# Altium schematic symbol library Mark_Library.SchLib: 467 symbols (part 3 of 4)
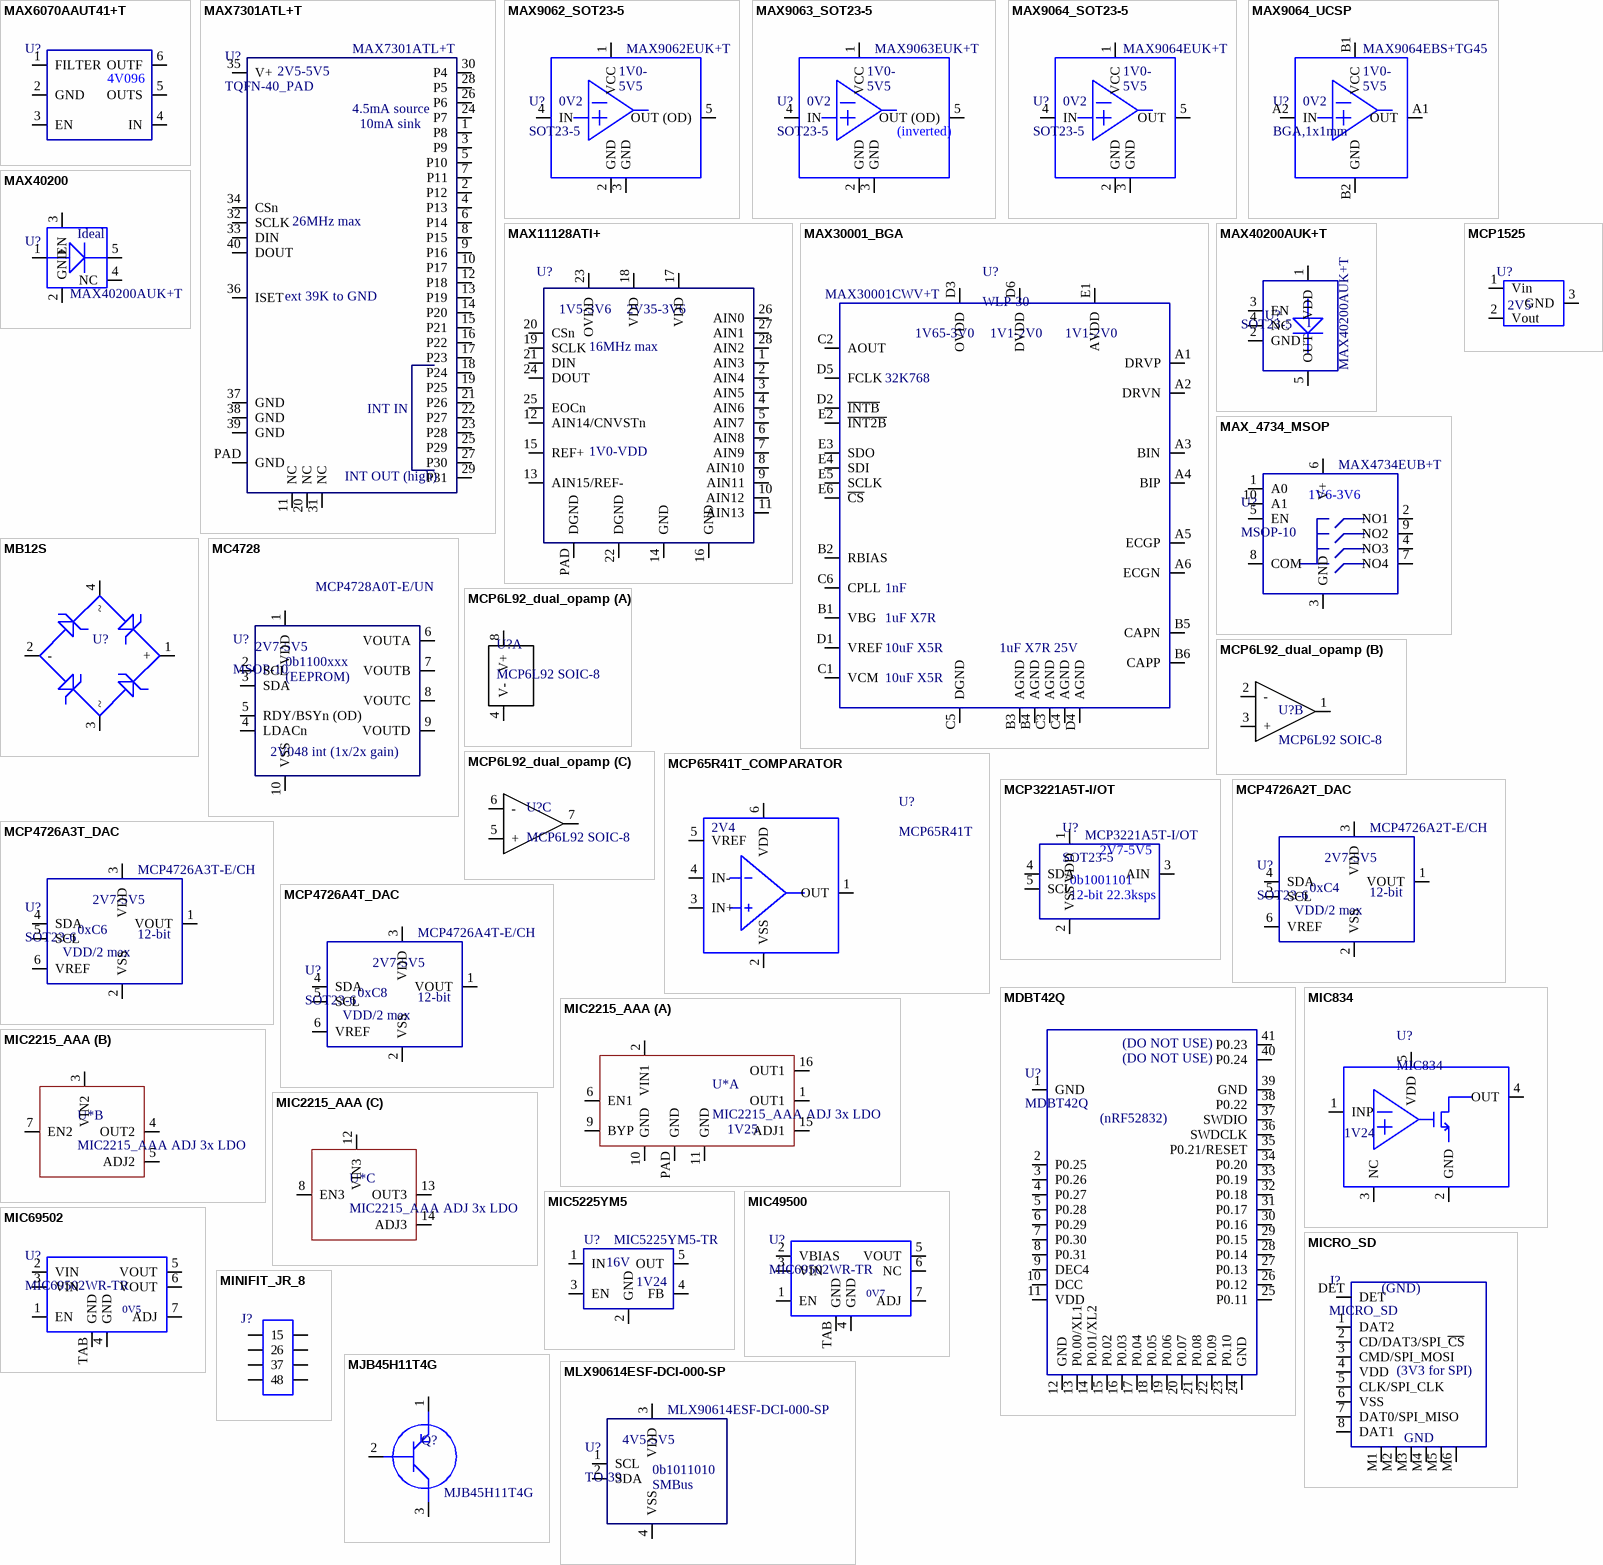
[diagram p21: symbols MAX6070AAUT41+T to MLX90614ESF-DCI-000-SP]

## MLX90614ESF-DCI-000-SP
designator U?, comment TO-39  MfgPartNumber: MLX90614ESF-DCI-000-SP
Manufacturer: Melexis; DigikeyPartNumber: MLX90614ESF-DCI-000-SP
footprint TO-39_20mm (4-pin TH 9mm dia x 20mm tall)
pins: 1 SCL, 2 SDA, 3 VDD, 4 VSS
text: 4V5-5V5; 0b1011010; SMBus

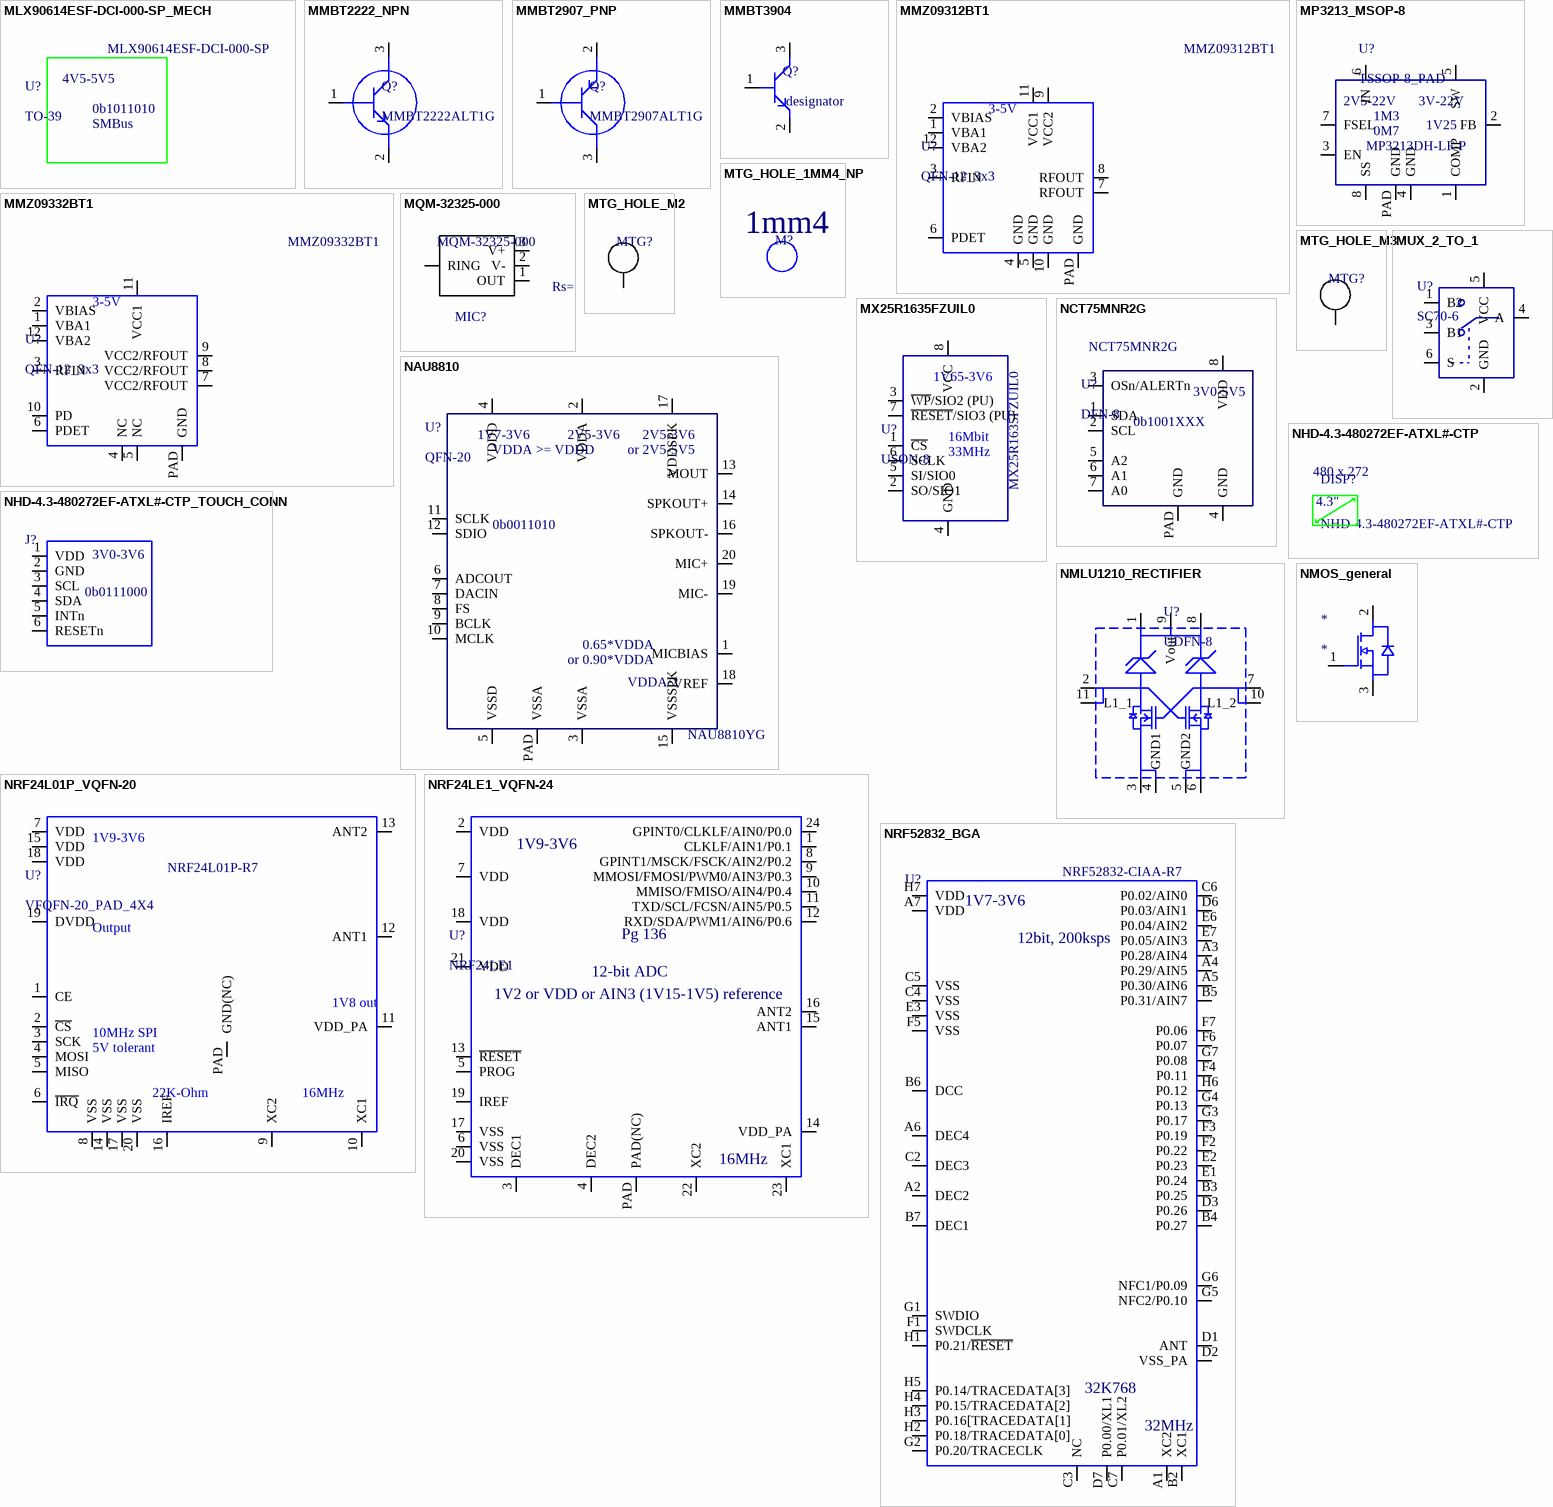
[diagram p13: symbols MLX90614ESF-DCI-000-SP_MECH to NRF52832_BGA]

## MLX90614ESF-DCI-000-SP_MECH
designator U?, comment TO-39  MfgPartNumber: MLX90614ESF-DCI-000-SP  (mechanical)
Manufacturer: Melexis; DigikeyPartNumber: MLX90614ESF-DCI-000-SP
footprint TO-39_20mm (4-pin TH 9mm dia x 20mm tall)
text: 4V5-5V5; 0b1011010; SMBus

## MMBT2222_NPN
designator Q?, comment MMBT2222ALT1G
Bipolar (BJT) Transistor NPN 40V 600mA 300MHz 225mW Surface Mount SOT-23; Manufacturer: ON Semiconductor; MfgPartNumber: MMBT2222ALT1G; DigikeyPartNumber: MMBT2222ALT1GOSCT-ND
footprint SOT23-3
pins: 1, 2, 3

## MMBT2907_PNP
designator Q?, comment MMBT2907ALT1G
Bipolar (BJT) Transistor NPN 40V 600mA 300MHz 225mW Surface Mount SOT-23; Manufacturer: ON Semiconductor; MfgPartNumber: MMBT2907ALT1G; DigikeyPartNumber: MMBT2907ALT1GOSCT-ND
footprint SOT23-3
pins: 1, 2, 3

## MMBT3904
designator Q?, comment .designator
TRANS NPN 40V 0.2A SOT23; Manufacturer: Micro Commercial Co; MfgPartNumber: MMBT3904-TP; DigikeyPartNumber: MMBT3904TPMSCT-ND
footprint SOT23-3
pins: 1, 2, 3

## MMZ09312BT1
designator U?  MfgPartNumber: MMZ09312BT1
IC RF AMP CDMA 400MHZ-1GHZ 12QFN; Manufacturer: NXP; DigikeyPartNumber: MMZ09312BT1CT-ND
footprint QFN-12_3x3 (3x3x0.9mm for MMZ09312B)
pins: 1 VBA1, 2 VBIAS, 3 RFIN, 4 GND, 5 GND, 6 PDET, 7 RFOUT, 8 RFOUT, 9 VCC2, 10 GND, 11 VCC1, 12 VBA2, PAD GND
text: 3-5V

## MMZ09332BT1
designator U?  MfgPartNumber: MMZ09332BT1
IC RF AMP LTE 130MHZ-1GHZ 12QFN; Manufacturer: NXP; DigikeyPartNumber: MMZ09332BT1CT-ND
footprint QFN-12_3x3 (3x3x0.9mm for MMZ09312B)
pins: 1 VBA1, 2 VBIAS, 3 RFIN, 4 NC, 5 NC, 6 PDET, 7 VCC2/RFOUT, 8 VCC2/RFOUT, 9 VCC2/RFOUT, 10 PD, 11 VCC1, 12 VBA2, PAD GND
text: 3-5V

## MP3213_MSOP-8
designator U?, comment TSSOP-8_PAD  MfgPartNumber: MP3213DH-LF-P
Boost Switching Regulator IC Positive Adjustable 3V 1 Output 3.5A 8-TSSOP, 8-MSOP (0.118", 3.00mm Width) Exposed Pad; Manufacturer: Monolithic Power Systems; DigikeyPartNumber: 1589-1625-1-ND
footprint TSSOP-8_PAD (8-pin SMT with power pad)
pins: 1 COMP, 2 FB, 3 EN, 4 GND, 5 SW, 6 IN, 7 FSEL, 8 SS, PAD GND
text: 2V5-22V; 3V-22V; 1M3; 1V25; 0M7

## MQM-32325-000
designator MIC?
Microphone, SMD; Manufacturer: Knowles; MfgPartNumber: MQM-32325-000; DigikeyPartNumber: MQM-32325-000-ND
footprint MQM-32325-000 - ALT
footprint MQM-32325-000
pins: 1 OUT, 2 V-, 3 V+, RING
text: Rs=4k

## MTG_HOLE_1MM4_NP
designator M?  (value not drawn)
non-plated, 1.4mm
footprint MTG_HOLE_1MM4_NP (1.4mm hole for a screw/standoff. NON-PLATED)
text: 1mm4

## MTG_HOLE_M2
designator MTG?, comment Not A Part  (value not drawn)  (no BOM)
Hole for an M2 standoff; Manufacturer: Lookup; Height: 15mm; MfgPartNumber: Lookup; DigikeyPartNumber: Lookup; Color: White
footprint MTG_HOLE_M2 (Hole for an M2 screw/standoff)
pins: 1 MTG "M3 MTG HOLE"

## MTG_HOLE_M3
designator MTG?, comment Not A Part  (value not drawn)  (no BOM)
Hole for an M3 standoff; Manufacturer: Lookup; Height: 15mm; MfgPartNumber: Lookup; DigikeyPartNumber: Lookup; Color: White
footprint MTG_HOLE_M3 (mounting hole M3)
pins: 1 MTG "M3 MTG HOLE"

## MUX_2_TO_1
designator U?, comment SC70-6
1 Circuit IC Switch 2:1 15Ohm SC-70-6; Manufacturer: Texas Instruments; MfgPartNumber: SN74LVC1G3157DCKR; DigikeyPartNumber: 296-14909-1-ND
footprint SC70-6 (6 pin 2.3x3.2mm board area)
pins: 1 B2, 2 GND, 3 B1, 4 A, 5 VCC, 6 S

## MX25R1635FZUIL0
designator U?, comment USON-8  MfgPartNumber: MX25R1635FZUIL0
FLASH - NOR Memory IC 16Mb (2M x 8) SPI 33MHz 8-USON (2x3); Manufacturer: Macronix; DigikeyPartNumber: 1092-1204-1-ND
footprint USON-8_PAD (2x3x0.55mm SMD)
pins: 1 ~{CS}, 2 SO/SIO1, 3 ~{WP}/SIO2 (PU), 4 GND, 5 SI/SIO0, 6 SCLK, 7 ~{RESET}/SIO3 (PU), 8 VCC
text: 1V65-3V6; 16Mbit; 33MHz

## NAU8810
designator U?, comment QFN-20  MfgPartNumber: NAU8810YG
IC AUDIO CODEC MONO 20QFN; Manufacturer: Nuvoton; DigikeyPartNumber: NAU8810YG-ND
footprint QFN-20_PAD (4x4x0.8mm 20-pin QFN + bottom pad)
pins: 1 MICBIAS, 2 VDDA, 3 VSSA, 4 VDDD, 5 VSSD, 6 ADCOUT, 7 DACIN, 8 FS, 9 BCLK, 10 MCLK, 11 SCLK, 12 SDIO, 13 MOUT, 14 SPKOUT+, 15 VSSSPK, 16 SPKOUT-, 17 VDDSPK, 18 VREF, 19 MIC-, 20 MIC+, PAD VSSA
text: 1V7-3V6; 2V5-3V6; VDDA >= VDDD; or 2V5-5V5; 0b0011010; 0.65*VDDA; or 0.90*VDDA; VDDA/2

## NCT75MNR2G
designator U?, comment DFN-8  MfgPartNumber: NCT75MNR2G
Temperature Sensor Digital, Local -55°C ~ 125°C 11 b 8-DFN (2x2); Parameter 1: ON Semiconductor; DigikeyPartNumber: NCT75MNR2GOSCT-ND
pins: 1 SDA, 2 SCL, 3 OSn/ALERTn, 4 GND, 5 A2, 6 A1, 7 A0, 8 VDD, PAD GND
text: 3V0-5V5; 0b1001XXX

## NHD-4.3-480272EF-ATXL#-CTP
designator DISP?, comment MfgPartNumber: NHD-4.3-480272EF-ATXL#-CTP  (hidden comment: 54104-4033, 52271-0679)  (mechanical)
LCD 24-bit RGB 4.3" capacitive touch; Manufacturer: Newhaven; DigikeyPartNumber: NHD-4.3-480272EF-ATXL#-CTP-ND
text: 480 x 272; 4.3"

## NHD-4.3-480272EF-ATXL#-CTP_TOUCH_CONN
designator J?, comment 0.05in 5x2  (value not drawn)
6 Position FPC Connector Contacts, Bottom 0.039" (1.00mm) Surface Mount, Right Angle; MfgPartNumber: 0522710679; Manufacturer: Molex; DigikeyPartNumber: WM7955CT-ND
footprint HEADER_2x5_0.05IN (0.05 (1.27mm) 2x5 header for programming nRF52832)
pins: 1 VDD, 2 GND, 3 SCL, 4 SDA, 5 INTn, 6 RESETn
text: 3V0-3V6; 0b0111000

## NMLU1210_RECTIFIER
designator U?, comment UDFN-8
BRIDGE RECT 3.2A 20V 8UDFN; Manufacturer: ON Semiconductor; MfgPartNumber: NMLU1210TWG; DigikeyPartNumber: NMLU1210TWGOSCT-ND
footprint NMLU1210TWG (BRIDGE RECT 3.2A 20V 8UDFN)
pins: 1 Vout, 2 L1_1, 3 GND1, 4 GND1, 5 GND2, 6 GND2, 7 L1_2, 8 Vout, 9 Vout, 10 L1_2, 11 L1_1

## NMOS_general
designator *
pins: 1, 2, 3

## NRF24L01P_VQFN-20
designator U?  MfgPartNumber: NRF24L01P-R7
IC RF TXRX ISM>1GHZ 20VFQFN; Manufacturer: Nordic Semiconductor; DigikeyPartNumber: 1490-1033-1-ND
footprint VFQFN-20_PAD_4X4 (4x4x0.95mm 20-pn + pad)
pins: 1 CE, 2 ~{CS}, 3 SCK, 4 MOSI, 5 MISO, 6 ~{IRQ}, 7 VDD, 8 VSS, 9 XC2, 10 XC1, 11 VDD_PA, 12 ANT1, 13 ANT2, 14 VSS, 15 VDD, 16 IREF, 17 VSS, 18 VDD, 19 DVDD, 20 VSS, PAD GND(NC)
text: 1V9-3V6; Output; 1V8 out; 10MHz SPI; 5V tolerant; 22K-Ohm; 16MHz

## NRF24LE1_VQFN-24
designator U?, comment NRF24LE1
IC RF TxRx + MCU General ISM > 1GHZ 2.4GHz 24-VFQFN Exposed Pad; Manufacturer: Nordic Semiconductor ASA; MfgPartNumber: NRF24LE1-F16Q24-T; DigikeyPartNumber: 1490-1020-ND
footprint VQFN-24_PAD (4x4x0.9mm)
pins: 1 CLKLF/AIN1/P0.1, 2 VDD, 3 DEC1, 4 DEC2, 5 PROG, 6 VSS, 7 VDD, 8 GPINT1/MSCK/FSCK/AIN2/P0.2, 9 MMOSI/FMOSI/PWM0/AIN3/P0.3, 10 MMISO/FMISO/AIN4/P0.4, 11 TXD/SCL/FCSN/AIN5/P0.5, 12 RXD/SDA/PWM1/AIN6/P0.6, 13 ~{RESET}, 14 VDD_PA, 15 ANT1, 16 ANT2, 17 VSS, 18 VDD, 19 IREF, 20 VSS, 21 VDD, 22 XC2, 23 XC1, 24 GPINT0/CLKLF/AIN0/P0.0, PAD PAD(NC)
text: 1V9-3V6; Pg 136; 12-bit ADC; 1V2 or VDD or AIN3 (1V15-1V5) reference; 16MHz

## NRF52832_BGA
designator U?  MfgPartNumber: NRF52832-CIAA-R7  (hidden comment: *)
Bluetooth Low Energy 50-XFBGA; Manufacturer: Nordic Semiconductor ASA; DigikeyPartNumber: 1490-1066-1-ND
footprint XFBGA-50 (3x4mm for NRF52832)
pins: A1 XC2, A2 DEC2, A3 P0.28/AIN4, A4 P0.29/AIN5, A5 P0.30/AIN6, A6 DEC4, A7 VDD, B2 XC1, B3 P0.25, B4 P0.27, B5 P0.31/AIN7, B6 DCC, B7 DEC1, C2 DEC3, C3 NC, C4 VSS, C5 VSS, C6 P0.02/AIN0, C7 P0.01/XL2, D1 ANT, D2 VSS_PA, D3 P0.26, D6 P0.03/AIN1, D7 P0.00/XL1, E1 P0.24, E2 P0.23, E3 VSS, E6 P0.04/AIN2, E7 P0.05/AIN3, F1 SWDCLK, F2 P0.22, F3 P0.19, F4 P0.11, F5 VSS, F6 P0.07, F7 P0.06, G1 SWDIO, G2 P0.20/TRACECLK, G3 P0.17, G4 P0.13, G5 NFC2/P0.10, G6 NFC1/P0.09, G7 P0.08, H1 P0.21/~{RESET}, H2 P0.18/TRACEDATA[0], H3 P0.16[TRACEDATA[1], H4 P0.15/TRACEDATA[2], H5 P0.14/TRACEDATA[3], H6 P0.12, H7 VDD
text: 1V7-3V6; 12bit, 200ksps; 32K768; 32MHz

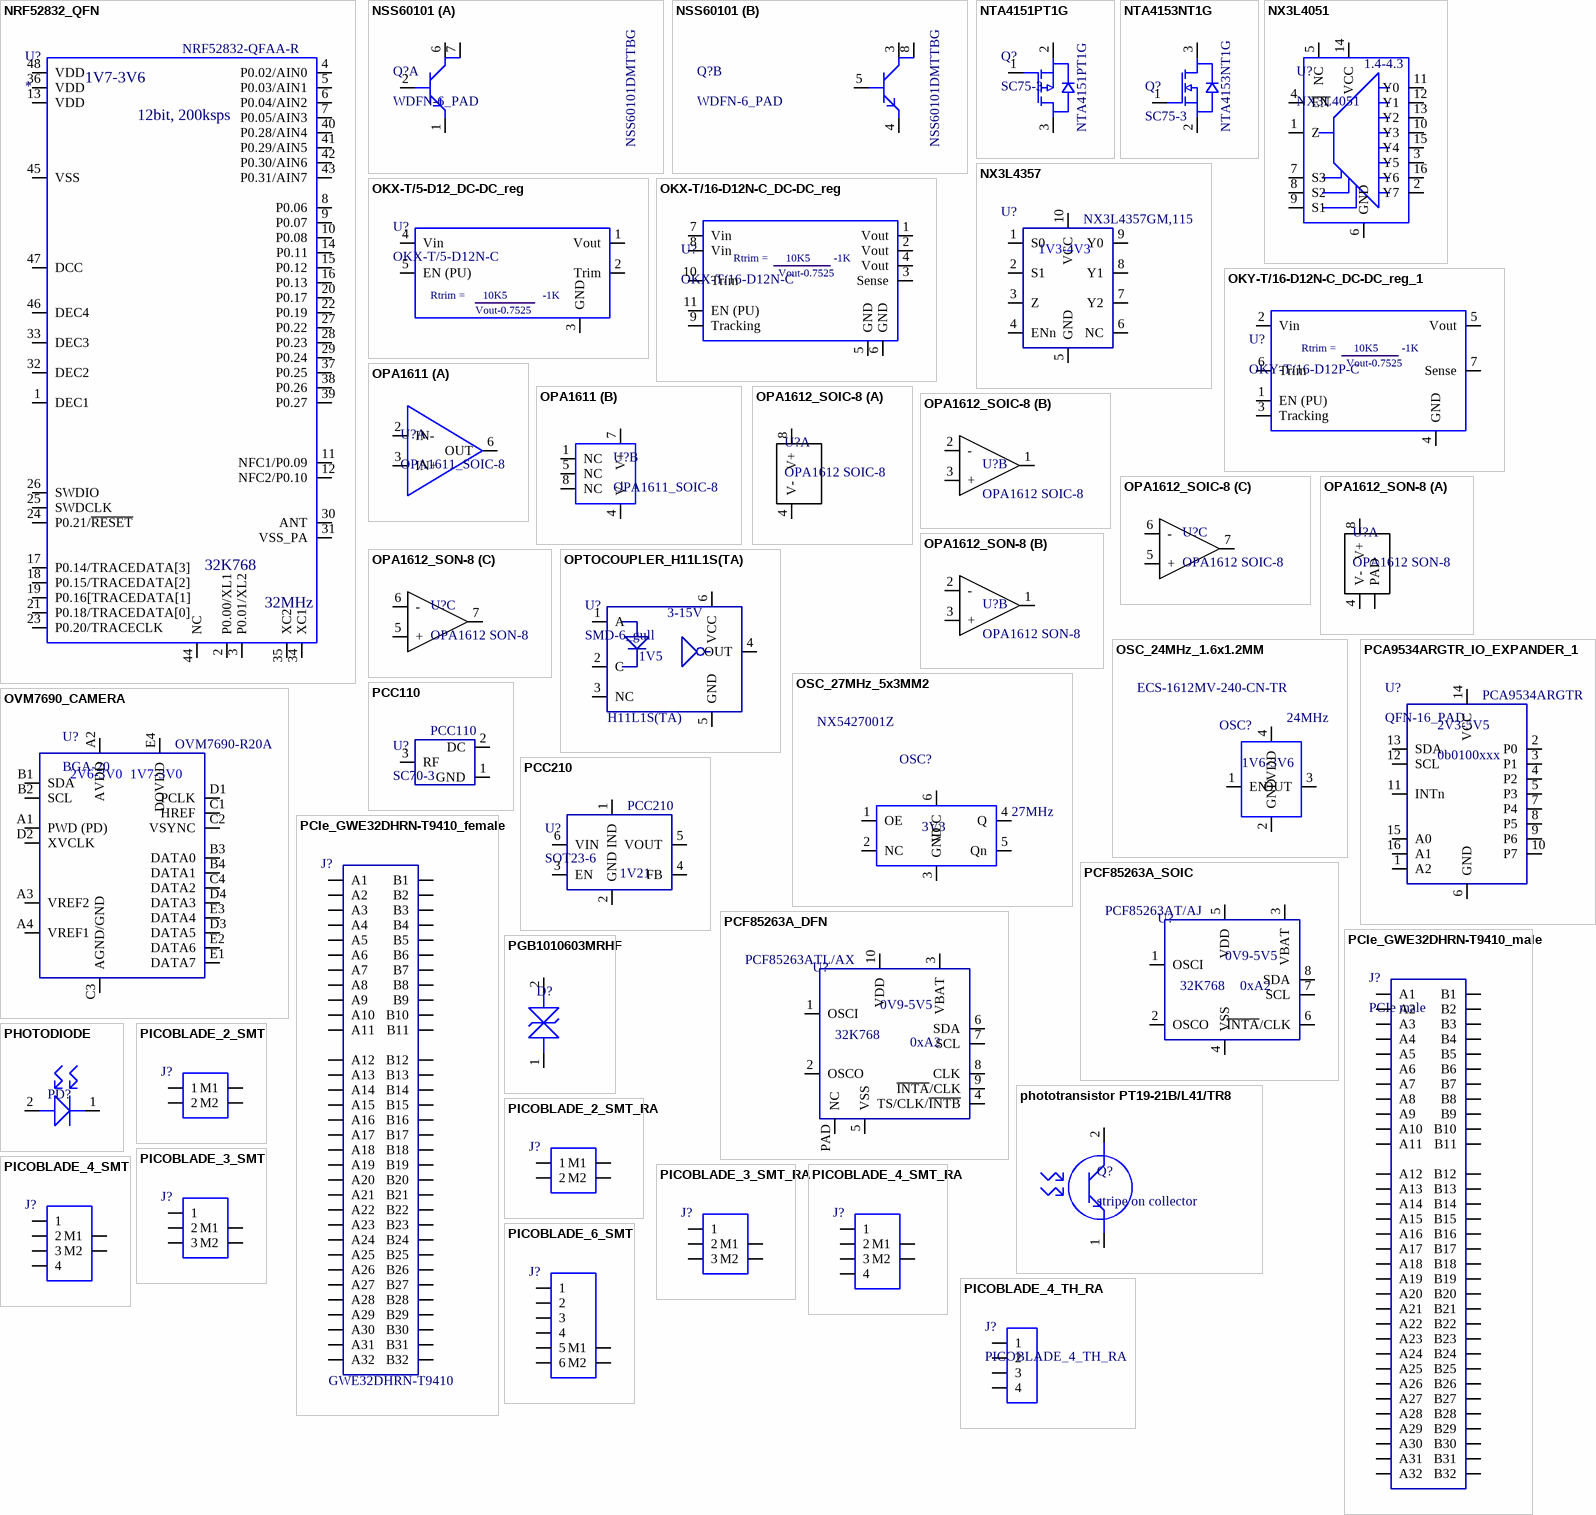
[diagram p14: symbols NRF52832_QFN to PICOBLADE_6_SMT]

## NRF52832_QFN
designator U?  MfgPartNumber: NRF52832-QFAA-R
Bluetooth Low Energy QFN-48; Manufacturer: Nordic Semiconductor ASA; DigikeyPartNumber: 1490-1052-1-ND
footprint VFQFN-48_PAD (6x6mm for NRF52832)
pins: 1 DEC1, 2 P0.00/XL1, 3 P0.01/XL2, 4 P0.02/AIN0, 5 P0.03/AIN1, 6 P0.04/AIN2, 7 P0.05/AIN3, 8 P0.06, 9 P0.07, 10 P0.08, 11 NFC1/P0.09, 12 NFC2/P0.10, 13 VDD, 14 P0.11, 15 P0.12, 16 P0.13, 17 P0.14/TRACEDATA[3], 18 P0.15/TRACEDATA[2], 19 P0.16[TRACEDATA[1], 20 P0.17, 21 P0.18/TRACEDATA[0], 22 P0.19, 23 P0.20/TRACECLK, 24 P0.21/~{RESET}, 25 SWDCLK, 26 SWDIO, 27 P0.22, 28 P0.23, 29 P0.24, 30 ANT, 31 VSS_PA, 32 DEC2, 33 DEC3, 34 XC1, 35 XC2, 36 VDD, 37 P0.25, 38 P0.26, 39 P0.27, 40 P0.28/AIN4, 41 P0.29/AIN5, 42 P0.30/AIN6, 43 P0.31/AIN7, 44 NC, 45 VSS, 46 DEC4, 47 DCC, 48 VDD
text: 1V7-3V6; 12bit, 200ksps; 32K768; 32MHz

## NSS60101
designator Q?, comment WDFN-6_PAD  MfgPartNumber: NSS60101DMTTBG
TRANS NPN DUAL 60V 1A 6WDFN; Manufacturer: ON Semiconductor; DigikeyPartNumber: NSS60101DMTTBGOSCT-ND
footprint WDFN-6_PAD (2x2x0.8mm DFN)
part A pins: 1, 2, 6, 7
part B pins: 3, 4, 5, 8

## NTA4151PT1G
designator Q?, comment SC75-3  MfgPartNumber: NTA4151PT1G
P-Channel 20V 760mA (Tj) 301mW (Tj) Surface Mount SC-75, SOT-416; Manufacturer: ON Semiconductor; DigikeyPartNumber: NTA4151PT1GOSCT-ND
footprint SC75-3
pins: 1 G, 2 S, 3 D

## NTA4153NT1G
designator Q?, comment SC75-3  MfgPartNumber: NTA4153NT1G
N-Channel 20V 915mA (Ta) 300mW (Tj) Surface Mount SC-75, SOT-416; Manufacturer: ON Semiconductor; DigikeyPartNumber: NTA4153NT1GOSCT-ND
footprint SC75-3
pins: 1 G, 2 S, 3 D

## NX3L4051
designator U?
IC ANALOG SWITCH 8CH SGL HXQFN16; Manufacturer: NXP; MfgPartNumber: NX3L4051HR,115; DigikeyPartNumber: 568-5561-1-ND
footprint HXQFN-16_PAD (3x3x0.5mm QFN)
pins: 1 Z, 2 Y7, 3 Y5, 4 ~{EN}, 5 NC, 6 GND, 7 S3, 8 S2, 9 S1, 10 Y3, 11 Y0, 12 Y1, 13 Y2, 14 VCC, 15 Y4, 16 Y6
text: 1.4-4.3

## NX3L4357
designator U?  MfgPartNumber: NX3L4357GM,115  (hidden comment: NX3L4357)
1 Circuit IC Switch 3:1 750mOhm 10-XQFN (1.55x2); Manufacturer: NXP; DigikeyPartNumber: 568-12422-1-ND
footprint XQFN-10 (1.55x2x0.5mm)
pins: 1 S0, 2 S1, 3 Z, 4 ENn, 5 GND, 6 NC, 7 Y2, 8 Y1, 9 Y0, 10 VCC
text: 1V3-4V3

## OKX-T/5-D12_DC-DC_reg
designator U?, comment OKX-T/5-D12N-C
DC-DC CONVRT 0.7525-5.5V 5A 5SIP; Manufacturer: Murata Power Solutions; DigikeyPartNumber: 811-2622-ND; MfgPartNumber: OKX-T/5-D12N-C
footprint OKX-T/5-D12 (DC-DC CONVRT 0.7525-5.5V 5A 5SIP)
pins: 1 Vout, 2 Trim, 3 GND, 4 Vin, 5 EN (PU)
text: Rtrim =      10K5; -1K; Vout-0.7525

## OKX-T/16-D12N-C_DC-DC_reg
designator U?, comment OKX-T/16-D12N-C
DC DC CONVERTER 0.75-5.5V 80W; Manufacturer: Murata Power Solutions; DigikeyPartNumber: 811-2013-5-ND; MfgPartNumber: OKX-T/16-D12N-C
footprint OKX-T/16-D12N-C (DC DC CONVERTER 0.75-5.5V 80W)
pins: 1 Vout, 2 Vout, 3 Sense, 4 Vout, 5 GND, 6 GND, 7 Vin, 8 Vin, 9 Tracking, 10 Trim, 11 EN (PU)
text: Rtrim =      10K5; -1K; Vout-0.7525

## OKY-T/16-D12N-C_DC-DC_reg_1
designator U?
DC DC CONVERTER 0.75-5.5V 80W; MfgPartNumber: OKY-T/16-D12P-C; Manufacturer: Murata Power Solutions; DigikeyPartNumber: 811-3645-1-ND
footprint OKY-T/16-D12P-C (13x33mm buck module)
pins: 1 EN (PU), 2 Vin, 3 Tracking, 4 GND, 5 Vout, 6 Trim, 7 Sense
text: Rtrim =      10K5; -1K; Vout-0.7525

## OPA1611
designator U?, comment OPA1611_SOIC-8
op-amp in SOIC-8 package; Manufacturer: TI; MfgPartNumber: OPA1611AID; DigikeyPartNumber: 296-24958-5-ND
footprint SOIC-8
part A pins: 2 IN-, 3 IN+, 6 OUT
part B pins: 1 NC, 4 V-, 5 NC, 7 V+, 8 NC

## OPA1612_SOIC-8
designator U?, comment OPA1612 SOIC-8
dual op-amp in SOIC-8 package; Manufacturer: TI; MfgPartNumber: OPA1612AIDR; DigikeyPartNumber: 296-39098-1-ND
footprint SOIC-8
part A pins: 4 V-, 8 V+
part B pins: 1, 2 -, 3 +
part C pins: 5 +, 6 -, 7

## OPA1612_SON-8
designator U?, comment OPA1612 SON-8
dual op-amp in SON-8 package; Manufacturer: TI; MfgPartNumber: OPA1612AIDRGR; DigikeyPartNumber: 296-38367-1-ND
footprint SON-8 (for OPA1612)
part A pins: 4 V-, 8 V+, PAD
part B pins: 1, 2 -, 3 +
part C pins: 5 +, 6 -, 7

## OPTOCOUPLER_H11L1S(TA)
designator U?  MfgPartNumber: H11L1S(TA)
OPTOISO 5KV OPEN COLLECTOR 6SMD; Manufacturer: Everlight Electronics; DigikeyPartNumber: 1080-1201-1-ND
footprint SMD-6_gull (for H11LX optocoupler)
pins: 1 A, 2 C, 3 NC, 4 OUT, 5 GND, 6 VCC
text: 3-15V; 1V5

## OSC_24MHz_1.6x1.2MM
designator OSC?, comment MfgPartNumber: ECS-1612MV-240-CN-TR  (hidden comment: 24MHz)
24MHz XO (Standard) CMOS Oscillator 1.6V ~ 3.63V Standby (Power Down) 4-SMD, No Lead; Manufacturer: ECS; DigikeyPartNumber: XC2829CT-ND; frequency: 24MHz
footprint OSC_1MM6_X_1MM2 (1.6 x 1.2 x 0.7mm 4-pin oscillator)
pins: 1 EN, 2 GND, 3 OUT, 4 VDD
text: 1V6-3V6

## OSC_27MHz_5x3MM2
designator OSC?, comment MfgPartNumber: NX5427001Z  (hidden comment: 27MHz)
27MHz XO (Standard) HCSL Oscillator 3.3V Enable/Disable 6-SMD, No Lead; Manufacturer: Diodes Inc.; DigikeyPartNumber: NX5427001ZDICT-ND; frequency: 27MHz
footprint SMD-6_5x3MM2 (For NX5427001Z oscillator)
pins: 1 OE, 2 NC, 3 GND, 4 Q, 5 Qn, 6 VCC
text: 3V3

## OVM7690_CAMERA
designator U?, comment BGA-20  MfgPartNumber: OVM7690-R20A
Camera module; Manufacturer: OmniVision; DigikeyPartNumber: 884-1019-1-ND
footprint BGA-20 (for OVM7690, OV7690)
pins: A1 PWD (PD), A2 AVDD, A3 VREF2, A4 VREF1, B1 SDA, B2 SCL, B3 DATA0, B4 DATA1, C1 HREF, C2 VSYNC, C3 AGND/GND, C4 DATA2, D1 PCLK, D2 XVCLK, D3 DATA5, D4 DATA3, E1 DATA7, E2 DATA6, E3 DATA4, E4 DOVDD
text: 2V6-3V0; 1V7-3V0

## PCA9534ARGTR_IO_EXPANDER_1
designator U?, comment QFN-16_PAD  MfgPartNumber: PCA9534ARGTR
I/O Expander 8 I²C, SMBus 400kHz 16-QFN (3x3); Manufacturer: Texas Instruments; DigikeyPartNumber: 296-24731-1-ND
footprint HXQFN-16_PAD (3x3x0.5mm QFN)
pins: 1 A2, 2 P0, 3 P1, 4 P2, 5 P3, 6 GND, 7 P4, 8 P5, 9 P6, 10 P7, 11 INTn, 12 SCL, 13 SDA, 14 VCC, 15 A0, 16 A1
text: 2V3-5V5; 0b0100xxx

## PCC110
designator U?, comment SC70-3  MfgPartNumber: PCC110
RF to DC rectifier; Manufacturer: Powercast; MouserPartNumber: 582-PCC110; DigikeyPartNumber: 1964-1012-1-ND
footprint SC70-3 (3 pin 2.3x3.2mm board area)
pins: 1 GND, 2 DC, 3 RF

## PCC210
designator U?, comment SOT23-6  MfgPartNumber: PCC210
Boost converter; Manufacturer: Powercast; MouserPartNumber: 582-PCC210
footprint SOT23-6
pins: 1 IND, 2 GND, 3 EN, 4 FB, 5 VOUT, 6 VIN
text: 1V21

## PCF85263A_DFN
designator U?, comment MfgPartNumber: PCF85263ATL/AX  (hidden comment: RTC)
IC RTC CLK/CALENDAR I2C 10DFN; Manufacturer: NXP; DigikeyPartNumber: 568-11541-1-ND
footprint DFN-10_PAD (2.6x2.6mm DFN 10 w/ power pad, used with PCF85263A)
pins: 1 OSCI, 2 OSCO, 3 VBAT, 4 TS/CLK/~{INTB}, 5 VSS, 6 SDA, 7 SCL, 8 CLK, 9 ~{INTA}/CLK, 10 VDD, PAD NC
text: 0V9-5V5; 32K768; 0xA2

## PCF85263A_SOIC
designator U?, comment MfgPartNumber: PCF85263AT/AJ  (hidden comment: RTC)
IC RTC CLK/CALENDAR I2C 8SOIC; Manufacturer: NXP; DigikeyPartNumber: 568-12405-1-ND
footprint SOIC-8
pins: 1 OSCI, 2 OSCO, 3 VBAT, 4 VSS, 5 VDD, 6 ~{INTA}/CLK, 7 SCL, 8 SDA
text: 0V9-5V5; 32K768; 0xA2

## PCIe_GWE32DHRN-T9410_female
designator J?, comment MfgPartNumber: GWE32DHRN-T9410  (hidden comment: PCIe female)
CONN PCI EXP FEMALE 64POS 0.039; Manufacturer: Sullins; DigikeyPartNumber: S9647-ND
footprint EDGE_GWE32DHRN-T9410 (GWE32DHRN-T9410 64-position connector)
pins: A1, A2, A3, A4, A5, A6, A7, A8, A9, A10, A11, A12, A13, A14, A15, A16, A17, A18, A19, A20, A21, A22, A23, A24, A25, A26, A27, A28, A29, A30, A31, A32, B1, B2, B3, B4, B5, B6, B7, B8, B9, B10, B11, B12, B13, B14, B15, B16, B17, B18, B19, B20, B21, B22, B23, B24, B25, B26, B27, B28, B29, B30, B31, B32

## PCIe_GWE32DHRN-T9410_male
designator J?, comment PCIe male  (no BOM)
male board outline template
footprint EDGE_GWE32DHRN-T9410 MALE TEMPLATE (Male template for GWE32DHRN-T9410 64-position connector)
pins: A1, A2, A3, A4, A5, A6, A7, A8, A9, A10, A11, A12, A13, A14, A15, A16, A17, A18, A19, A20, A21, A22, A23, A24, A25, A26, A27, A28, A29, A30, A31, A32, B1, B2, B3, B4, B5, B6, B7, B8, B9, B10, B11, B12, B13, B14, B15, B16, B17, B18, B19, B20, B21, B22, B23, B24, B25, B26, B27, B28, B29, B30, B31, B32

## PGB1010603MRHF
designator D?, comment Zener Diode  (value not drawn)
TVS DIODE 24V 150V 0603; Manufacturer: Littlefuse; MfgPartNumber: PGB1010603MRHF; DigikeyPartNumber: F3801CT-ND
footprint D0603_NONPOL (Chip diode,  Body 1.6 x 0.8 mm (LxW typ))
pins: 1, 2

## PHOTODIODE
designator PD?  (value not drawn)
Manufacturer: Lookup; MfgPartNumber: Lookup; DigikeyPartNumber: Lookup
footprint LED_0402 (0402 w/ LED mark)
footprint LED_0603 (0603 w/ LED mark)
footprint LED0201 (0201 w/ LED mark, Experimental)
footprint LED_TH_OVAL_GREEN (For CREE C5SMF series)
footprint LED_TH_OVAL_RED (For CREE C5SMF series)
pins: 1, 2

## phototransistor PT19-21B/L41/TR8
designator Q?, comment stripe on collector
phototransistor 0603; Manufacturer: Everlight Electronics Co.; MfgPartNumber: PT19-21B/L41/TR8; DigikeyPartNumber: 1080-1383-1-ND
footprint PT0603 (phototransistor 0603)
pins: 1 E, 2 C

## PICOBLADE_2_SMT
designator J?
CONN HEADER SMD 2POS 1.25MM; Manufacturer: Molex; MfgPartNumber: 0533980271; DigikeyPartNumber: WM7606CT-ND
footprint PICOBLADE_2_SMT
pins: 1, 2, M1, M2

## PICOBLADE_2_SMT_RA
designator J?
CONN HEADER SMD R/A 2POS 1.25MM; Manufacturer: Molex; MfgPartNumber: 0532610271; DigikeyPartNumber: WM7620CT-ND
footprint PICOBLADE_2_SMT_RA
pins: 1, 2, M1, M2

## PICOBLADE_3_SMT
designator J?
CONN HEADER SMD 3POS 1.25MM; Manufacturer: Molex; MfgPartNumber: 0533980371; DigikeyPartNumber: WM7607CT-ND
footprint PICOBLADE_3_SMT
pins: 1, 2, 3, M1, M2

## PICOBLADE_3_SMT_RA
designator J?
CONN HEADER SMD R/A 3POS 1.25MM; Manufacturer: Molex; MfgPartNumber: 0532610371; DigikeyPartNumber: WM7621CT-ND
footprint PICOBLADE_3_SMT_RA
pins: 1, 2, 3, M1, M2

## PICOBLADE_4_SMT
designator J?
CONN HEADER SMD 4POS 1.25MM; Manufacturer: Molex; MfgPartNumber: 0533980471; DigikeyPartNumber: WM7608CT-ND
footprint PICOBLADE_4_SMT
pins: 1, 2, 3, 4, M1, M2

## PICOBLADE_4_SMT_RA
designator J?
CONN HEADER SMD R/A 4POS 1.25MM; Manufacturer: Molex; MfgPartNumber: 0532610471; DigikeyPartNumber: WM7622CT-ND
footprint PICOBLADE_4_SMT_RA
pins: 1, 2, 3, 4, M1, M2

## PICOBLADE_4_TH_RA
designator J?
CONN HEADER 4POS 1.25MM R/A TIN; Manufacturer: Molex; MfgPartNumber: 0530480410; DigikeyPartNumber: WM1744-ND
footprint PICOBLADE_4_TH_RA (picoblade 4-pin thru-hole right-angle)
pins: 1, 2, 3, 4

## PICOBLADE_6_SMT
designator J?
CONN HEADER SMD 6POS 1.25MM; Manufacturer: Molex; MfgPartNumber: 0533980671; DigikeyPartNumber: WM7610CT-ND
footprint PICOBLADE_6_SMT
pins: 1, 2, 3, 4, 5, 6, M1, M2

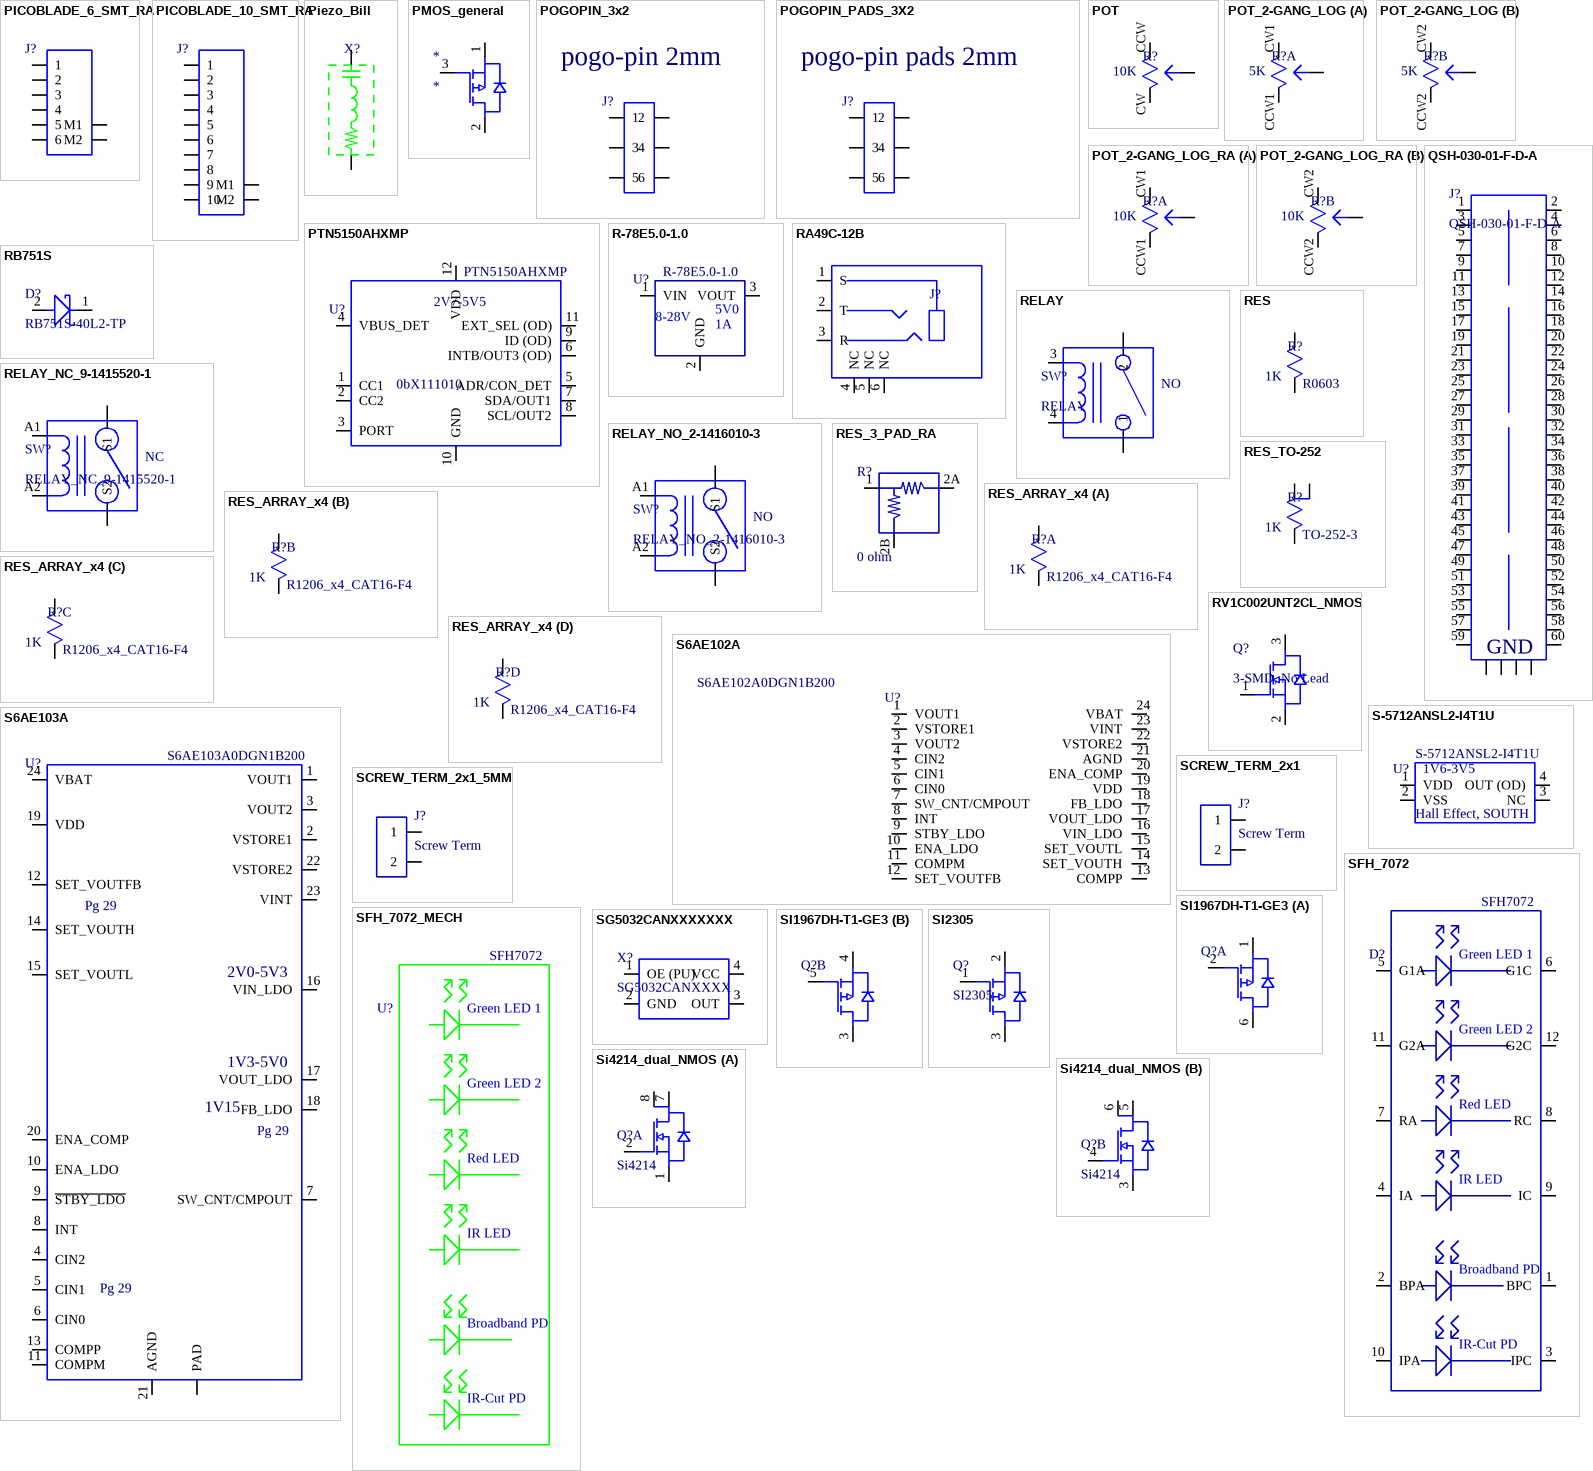
[diagram p15: symbols PICOBLADE_6_SMT_RA to Si4214_dual_NMOS]

## PICOBLADE_6_SMT_RA
designator J?
CONN HEADER SMD R/A 6POS 1.25MM; Manufacturer: Molex; MfgPartNumber: 0532610671; DigikeyPartNumber: WM7624CT-ND
footprint PICOBLADE_6_SMT_RA
footprint PICOBLADE_6_SMT_RA_REVERSE (pints 1-6 reverse to mate with base part)
pins: 1, 2, 3, 4, 5, 6, M1, M2

## PICOBLADE_10_SMT_RA
designator J?
CONN HEADER SMD R/A 10POS 1.25MM; Manufacturer: Molex; MfgPartNumber: 0532611071; DigikeyPartNumber: WM7628CT-ND
footprint PICOBLADE_10_SMT_RA
pins: 1, 2, 3, 4, 5, 6, 7, 8, 9, 10, M1, M2

## Piezo_Bill
designator X?  (value not drawn)  (mechanical)
pins: 1, 2

## PMOS_general
designator *
pins: 1, 2, 3

## POGOPIN_3x2
designator J?, comment pogopin 3x2 2mm  (value not drawn)
Gender: Male
footprint POGOPIN_3x2_2mm (through-hole 3x2mm pogopin 2mm pitch)
pins: 1, 2, 3, 4, 5, 6
text: pogo-pin 2mm

## POGOPIN_PADS_3X2
designator J?, comment Not a part. Receives pogopins.  (value not drawn)
NP: NP
footprint POGOPIN_PADS_3X2_2MM (pads for pcb receiving pogopin treatment)
pins: 1, 2, 3, 4, 5, 6
text: pogo-pin pads 2mm

## POT
designator R?  value 10K
Potentiometer; Manufacturer: Lookup; MfgPartNumber: Lookup; DigikeyPartNumber: Lookup
footprint 3361P_TRIMPOT (BOURNS 3361P trimpot)
footprint POT_EVU-F2M (for EVU-F2ML3D24)
pins: CCW, CW, SW

## POT_2-GANG_LOG
designator R?  value 5K
Potentiometer; Manufacturer: Panasonic; MfgPartNumber: EVJ-Y10F03D53; DigikeyPartNumber: P2H2502-ND
footprint EVJ-Y10_DUAL_POT (2-gang potentiometer)
part A pins: CCW1, CW1, SW1
part B pins: CCW2, CW2, SW2

## POT_2-GANG_LOG_RA
designator R?  value 10K
Potentiometer, 2-gang, 10k, log, right angle; Manufacturer: Bourns; MfgPartNumber: PTD902-1025K-A103; DigikeyPartNumber: PTD902-1025K-A103-ND
footprint PTD902-1025K-A103 (POT 2 gang right angle)
part A pins: CCW1, CW1, SW1
part B pins: CCW2, CW2, SW2

## PTN5150AHXMP
designator U?  MfgPartNumber: PTN5150AHXMP
USB Controller USB Interface 12-X2QFN (1.6x1.6); Manufacturer: NXP; DigikeyPartNumber: 568-13083-1-ND
footprint X2QFN-12 (1.6x1.6mm QFN)
pins: 1 CC1, 2 CC2, 3 PORT, 4 VBUS_DET, 5 ADR/CON_DET, 6 INTB/OUT3 (OD), 7 SDA/OUT1, 8 SCL/OUT2, 9 ID (OD), 10 GND, 11 EXT_SEL (OD), 12 VDD
text: 2V7-5V5; 0bX111010

## QSH-030-01-F-D-A
designator J?
.5MM DOUBLE ROW MI SOCKET ASSEMB; Manufacturer: Samtec; MfgPartNumber: QSH-030-01-F-D-A; DigikeyPartNumber: SAM10650-ND
footprint QSH-030-01-F-D-A (.5MM DOUBLE ROW MI SOCKET ASSEMB)
pins: 1, 2, 3, 4, 5, 6, 7, 8, 9, 10, 11, 12, 13, 14, 15, 16, 17, 18, 19, 20, 21, 22, 23, 24, 25, 26, 27, 28, 29, 30, 31, 32, 33, 34, 35, 36, 37, 38, 39, 40, 41, 42, 43, 44, 45, 46, 47, 48, 49, 50, 51, 52, 53, 54, 55, 56, 57, 58, 59, 60, G1, G2, G3, G4
text: GND

## R-78E5.0-1.0
designator U?  MfgPartNumber: R-78E5.0-1.0  (hidden comment: *)
DC DC CONVERTER 5V 5W; Manufacturer: Recom Power; DigikeyPartNumber: 945-2201-ND
footprint Recom_DC_DC (11.6x8.5x10.4mm DC DC converter)
pins: 1 VIN, 2 GND, 3 VOUT
text: 5V0; 8-28V; 1A

## RA49C-12B
designator J?  (value not drawn)
3-conductor audio jack, female, 1/4 inch; Manufacturer: Switchcraft; MfgPartNumber: RA49C-12B; DigikeyPartNumber: SC2083-ND
footprint RA49C-12B (0.25inch audio jack, thru-hole)
pins: 1 S, 2 T, 3 R, 4 NC, 5 NC, 6 NC

## RB751S
designator D?, comment RB751S-40L2-TP
Diode Schottky 40V 30mA Surface Mount DFN1006-2; Manufacturer: Micro Commercial Co; MfgPartNumber: RB751S-40L2-TP; DigikeyPartNumber: RB751S-40L2-TPMSCT-ND
footprint D0402 (1.0x0.6x0.5mm for RB751S-40L2)
pins: 1, 2

## RELAY
designator SW?  Relay type: NO
pins: 1, 2, 3, 4

## RELAY_NC_9-1415520-1
designator SW?  Relay type: NC
Relay; Manufacturer: TE Connectivity; MfgPartNumber: 9-1415520-1; DigikeyPartNumber: 9-1415520-1-ND
footprint RELAY_ 9-1415520-1 (40x13x16mm normally closed)
pins: A1, A2, S1, S2

## RELAY_NO_2-1416010-3
designator SW?  Relay type: NO
Relay; Manufacturer: TE Connectivity; MfgPartNumber: 2-1416010-3; DigikeyPartNumber: PB2692-ND
footprint RELAY_2-1416010-3 (20x10x10.6mm normally opem)
pins: A1, A2, S1, S2

## RES
designator R?, comment value 1K  (hidden comment: Resistor)
Manufacturer: Lookup; Tolerance: 1%; MfgPartNumber: Lookup; DigikeyPartNumber: Lookup
footprint R0603
footprint R0402
footprint R0201 (Experimental)
pins: 1, 2

## RES_3_PAD_RA
designator R?  value 0 ohm  (hidden comment: RES_3_PAD_RA)
3 pads to place 1 resistor; MfgPartNumber: Lookup; NP: Populate A; DigikeyPartNumber: Lookup
footprint R0402_3-PAD_RA
pins: 1, 2A, 2B

## RES_ARRAY_x4
designator R?, comment value 1K  (hidden comment: Resistor)
Manufacturer: Lookup; Tolerance: 1%; MfgPartNumber: Lookup; DigikeyPartNumber: Lookup
footprint R1206_x4_CAT16-F4 (4-resistor array)
part A pins: 1, 2
part B pins: 3, 4
part C pins: 5, 6
part D pins: 7, 8

## RES_TO-252
designator R?, comment value 1K  (hidden comment: Resistor)
Resistor in a TO-252 package; Manufacturer: Lookup; Tolerance: 1%; MfgPartNumber: Lookup; DigikeyPartNumber: Lookup
footprint TO-252-3 (3-pin SMD)
pins: 1, 2, 3

## RV1C002UNT2CL_NMOS
designator Q?, comment 3-SMD, No Lead
N-Channel 20V 150mA (Ta) 100mW (Ta) Surface Mount VML0806; Manufacturer: Rohm Semiconductor; MfgPartNumber: RV1C002UNT2CL; DigikeyPartNumber: RV1C002UNT2CLCT-ND
footprint DFN0806-3 (0.6x0.8x0.4mm 3-pin SMD)
pins: 1 G, 2 S, 3 D

## S6AE102A
designator U?  MfgPartNumber: S6AE102A0DGN1B200  (hidden comment: S6AE102A)
IC PMIC ENERGY HARVESTING 20QFN; Manufacturer: Cypress; DigikeyPartNumber: 428-3872-1-ND
footprint VQFN-24_PAD (4x4x0.9mm)
pins: 1 VOUT1, 2 VSTORE1, 3 VOUT2, 4 CIN2, 5 CIN1, 6 CIN0, 7 SW_CNT/CMPOUT, 8 INT, 9 STBY_LDO, 10 ENA_LDO, 11 COMPM, 12 SET_VOUTFB, 13 COMPP, 14 SET_VOUTH, 15 SET_VOUTL, 16 VIN_LDO, 17 VOUT_LDO, 18 FB_LDO, 19 VDD, 20 ENA_COMP, 21 AGND, 22 VSTORE2, 23 VINT, 24 VBAT

## S6AE103A
designator U?  MfgPartNumber: S6AE103A0DGN1B200  (hidden comment: S6AE103A)
IC PMIC ENERGY HARVESTING 24QFN; Manufacturer: Cypress; DigikeyPartNumber: 428-3873-1-ND
footprint VQFN-24_PAD (4x4x0.9mm)
pins: 1 VOUT1, 2 VSTORE1, 3 VOUT2, 4 CIN2, 5 CIN1, 6 CIN0, 7 SW_CNT/CMPOUT, 8 INT, 9 ~{STBY_LDO}, 10 ENA_LDO, 11 COMPM, 12 SET_VOUTFB, 13 COMPP, 14 SET_VOUTH, 15 SET_VOUTL, 16 VIN_LDO, 17 VOUT_LDO, 18 FB_LDO, 19 VDD, 20 ENA_COMP, 21 AGND, 22 VSTORE2, 23 VINT, 24 VBAT, PAD
text: Pg 29; 2V0-5V3; 1V3-5V0; 1V15

## S-5712ANSL2-I4T1U
designator U?
Digital Switch Unipolar Switch Open Drain Hall Effect SNT-4A; Manufacturer: ABLIC; DigikeyPartNumber: 1662-1617-1-ND; MfgPartNumber: S-5712ANSL2-I4T1U
footprint SNT-4A (4-pin 1.2x1.6x0.5mm for S5712 series Hall Effect Sensors)
pins: 1 VDD, 2 VSS, 3 NC, 4 OUT (OD)
text: 1V6-3V5; Hall Effect, SOUTH

## SCREW_TERM_2x1
designator J?, comment Screw Term
TERM BLK 2P SIDE ENT 6.35MM PCB; MfgPartNumber: 0393800102; Manufacturer: Molex; DigikeyPartNumber: WM13944-ND
footprint SCREW_TERM_2x1_6MM35 (screw terminals 6.35mm pitch)
pins: 1, 2

## SCREW_TERM_2x1_5MM
designator J?, comment Screw Term
TERM BLK 2POS SIDE ENTRY 5MM PCB; MfgPartNumber: 1935161; Manufacturer: Phoenix Contact; DigikeyPartNumber: 277-1667-ND
footprint SCREW_TERM_2x1_5MM (screw terminals 5mm pitch)
pins: 1, 2

## SFH_7072
designator D?  MfgPartNumber: SFH7072  (hidden comment: SFH_7072)
Reflective Optical Sensor 6-SMD, No Lead; Manufacturer: OSRAM; DigikeyPartNumber: 475-3345-1-ND
footprint SFH_7072 (4x7.6x1 mm 4xLED & 2xPD array for Osram SFH7072)
pins: 1 BPC, 2 BPA, 3 IPC, 4 IA, 5 G1A, 6 G1C, 7 RA, 8 RC, 9 IC, 10 IPA, 11 G2A, 12 G2C
text: Green LED 1; Green LED 2; Red LED; IR LED; Broadband PD; IR-Cut PD

## SFH_7072_MECH
designator U?, comment MfgPartNumber: SFH7072  (hidden comment: SFH_7072)  (mechanical)
Reflective Optical Sensor 6-SMD, No Lead; Manufacturer: OSRAM; DigikeyPartNumber: 475-3345-1-ND
footprint SFH_7072 (4x7.6x1 mm 4xLED & 2xPD array for Osram SFH7072)
text: Green LED 1; Green LED 2; Red LED; IR LED; Broadband PD; IR-Cut PD

## SG5032CANXXXXXXX
designator X?, comment SG5032CANXXXX
Manufacturer: EPSON; MfgPartNumber: lookup SG5032CANXXXXXX; DigikeyPartNumber: lookup
footprint SG5032 (for EPSON oscillators)
pins: 1 OE (PU), 2 GND, 3 OUT, 4 VCC

## SI1967DH-T1-GE3
designator Q?
MOSFET 2P-CH 20V 1.3A SC70-6; MfgPartNumber: Vishay; Manufacturer: SI1967DH-T1-GE3; DigikeyPartNumber: SI1967DH-T1-GE3CT-ND
footprint SC70-6 (6 pin 2.3x3.2mm board area)
part A pins: 1 S, 2 G, 6 D
part B pins: 3 D, 4 S, 5 G

## SI2305
designator Q?
P-CHANNEL MOSFET, SOT-23 PACKAGE; Manufacturer: Micro Commercial Co; MfgPartNumber: SI2305-TP; VDS: -8V; Rds: 90mohm @ Vgs = -1.8V; DigikeyPartNumber: SI2305-TPMSCT-ND
footprint SOT23-3
pins: 1, 2, 3

## Si4214_dual_NMOS
designator Q?, comment Si4214
MOSFET 2N-CH 30V 8.5A 8-SOIC; MfgPartNumber: SI4214DDY-T1-GE3; Manufacturer: Vishay Siliconix; DigikeyPartNumber: SI4214DDY-T1-GE3CT-ND
footprint SOIC-8
part A pins: 1 S1, 2 G1, 7 D1, 8 D1
part B pins: 3 S2, 4 G2, 5 D2, 6 D2

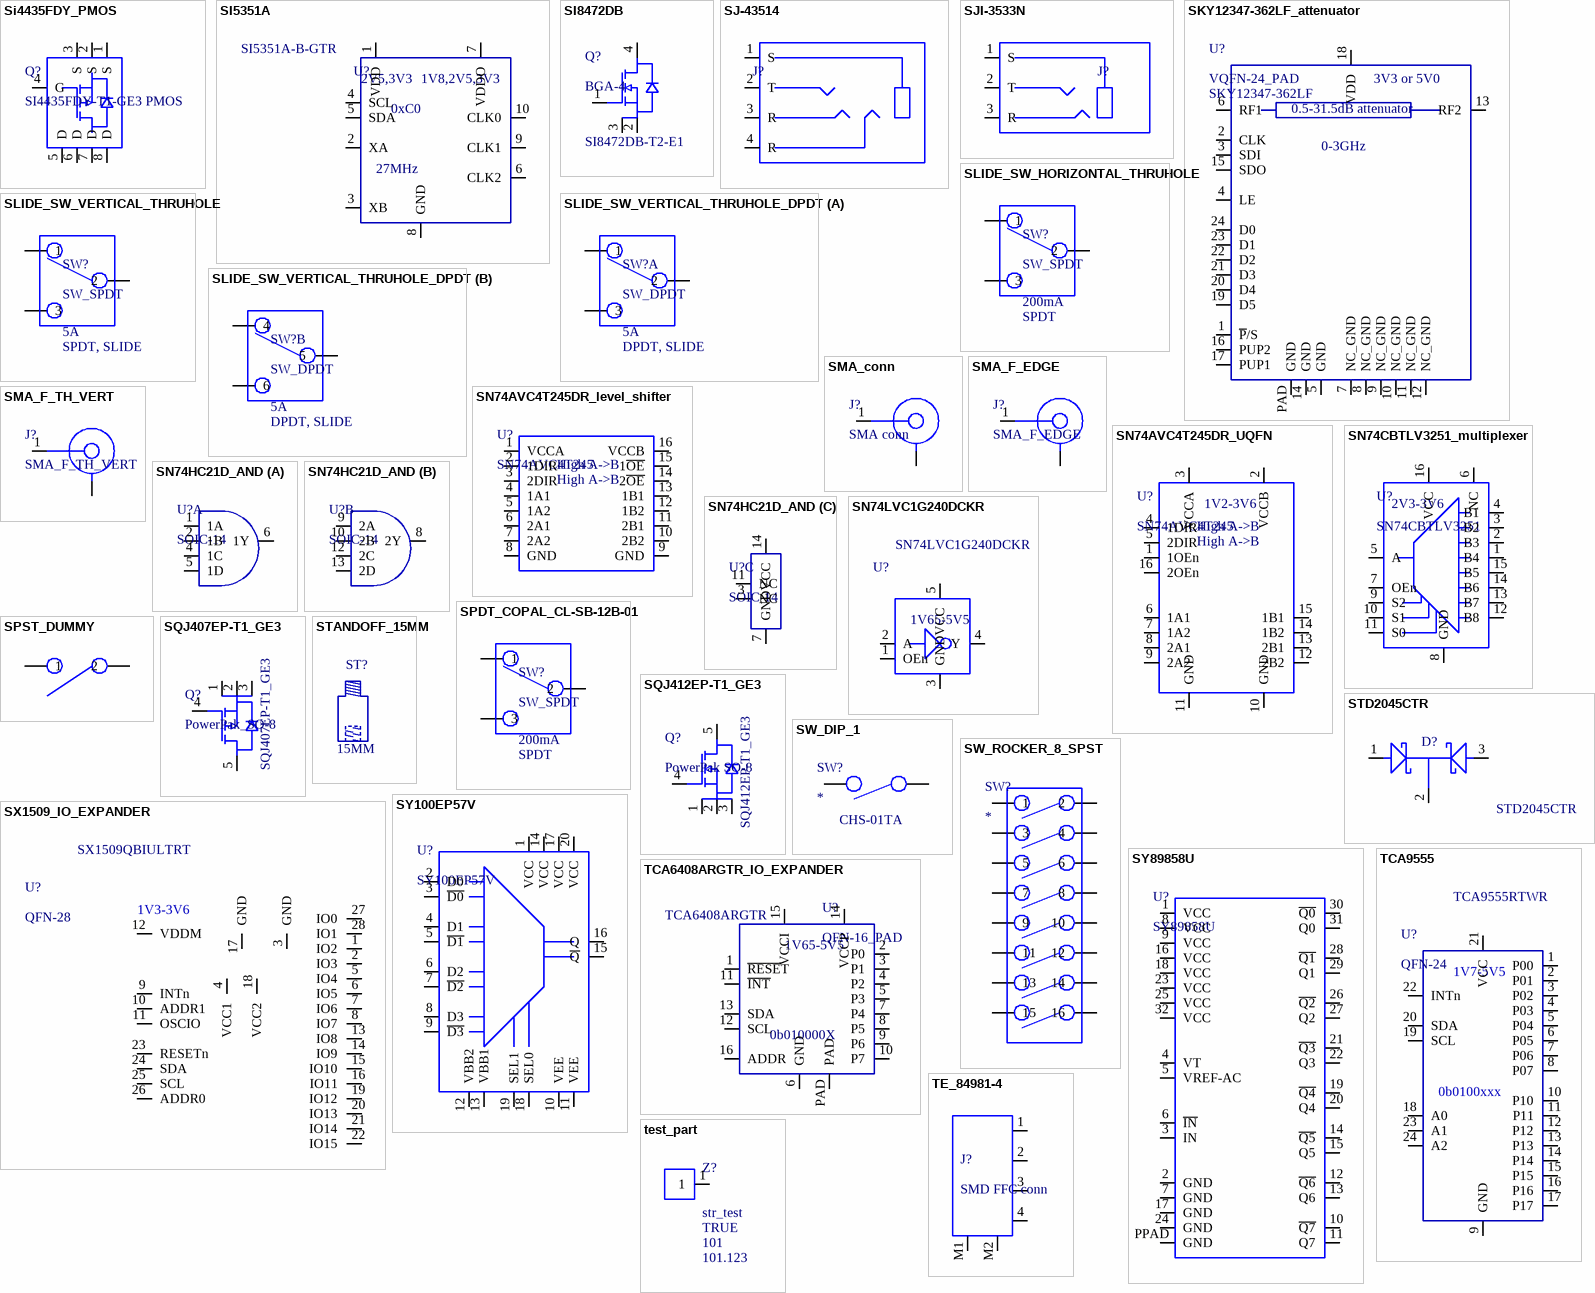
[diagram p16: symbols Si4435FDY_PMOS to test_part]

## Si4435FDY_PMOS
designator Q?, comment SI4435FDY-T1-GE3 PMOS
MOSFET P-CH 30V 12.6A 8SOIC; Manufacturer: Vishay Siliconix; DigikeyPartNumber: SI4435FDY-T1-GE3CT-ND; MfgPartNumber: SI4435FDY-T1-GE3
footprint SOIC-8
pins: 1 S, 2 S, 3 S, 4 G, 5 D, 6 D, 7 D, 8 D

## SI5351A
designator U?  MfgPartNumber: SI5351A-B-GTR  (hidden comment: SI5351A)
C CLK GENERATOR 200MHZ 10MSOP; Manufacturer: Silicon Labs; DigikeyPartNumber: 336-3908-1-ND
footprint MSOP-10 (3x3mm + leads, 10 pins SMD)
pins: 1 VDD, 2 XA, 3 XB, 4 SCL, 5 SDA, 6 CLK2, 7 VDDO, 8 GND, 9 CLK1, 10 CLK0
text: 2V5,3V3; 1V8,2V5,3V3; 0xC0; 27MHz

## SI8472DB
designator Q?, comment BGA-4  MfgPartNumber: SI8472DB-T2-E1
N-Channel 20V 780mW (Ta) Surface Mount 4-Micro Foot (1x1); Manufacturer: Vishay Siliconix; DigikeyPartNumber: SI8472DB-T2-E1CT-ND
footprint BGA-4 (1x1x0.55mm 4-pin BGA)
pins: 1 G, 2 S, 3 S, 4 D

## SJ-43514
designator J?
4-pin 3.5mm audio jack; MfgPartNumber: SJ-43514-SMT; Manufacturer: CUI inc
footprint SJ-43514-SMT (4-pin 3.5mm audio jack)
pins: 1 S, 2 T, 3 R, 4 R

## SJI-3533N
designator J?, comment SJ1-3533N  (value not drawn)
3-conductor audio jack, female; Manufacturer: CUI; MfgPartNumber: SJ1-3533N; DigikeyPartNumber: CP1-3533N-ND
footprint SJ1-3533N (Audio Jack, 3 conductors, female)
pins: 1 S, 2 T, 3 R

## SKY12347-362LF_attenuator
designator U?  MfgPartNumber: SKY12347-362LF
RF ATTENUATOR 0.5-31.5DB 24VFQFN; Manufacturer: Skyworks Solutions; DigikeyPartNumber: 863-1298-1-ND
footprint VQFN-24_PAD (4x4x0.9mm)
pins: 1 ~{P}/S, 2 CLK, 3 SDI, 4 LE, 5 GND, 6 RF1, 7 NC_GND, 8 NC_GND, 9 NC_GND, 10 NC_GND, 11 NC_GND, 12 NC_GND, 13 RF2, 14 GND, 15 SDO, 16 PUP2, 17 PUP1, 18 VDD, 19 D5, 20 D4, 21 D3, 22 D2, 23 D1, 24 D0, PAD GND
text: 3V3 or 5V0; 0.5-31.5dB attenuator; 0-3GHz

## SLIDE_SW_HORIZONTAL_THRUHOLE
designator SW?, comment SW_SPDT  CurrentLimit: 200mA  SW_type: SPDT
Slide Switch, SPDT, TH, 200mA,MBB; Manufacturer: E-Switch; MfgPartNumber: EG1206A; DigikeyPartNumber: EG1917-ND
footprint EG1206A_SlideSwitch (SPDT Thru Hole, For EG1206A Slide Switch)
pins: 1, 2, 3, M1 hidden, M2 hidden

## SLIDE_SW_VERTICAL_THRUHOLE
designator SW?, comment SW_SPDT  CurrentLimit: 5A  SW_type: SPDT, SLIDE
Slide Switch, SPDT, TH, 5A; Manufacturer: E-Switch; MfgPartNumber: 500SSP1S2M2QEA; DigikeyPartNumber: EG5137-ND
footprint SLIDE_SWITCH_TH_VERT (thruhole slide switch 5A vertical)
pins: 1, 2, 3, M1 hidden, M2 hidden

## SLIDE_SW_VERTICAL_THRUHOLE_DPDT
designator SW?, comment SW_DPDT  CurrentLimit: 5A  SW_type: DPDT, SLIDE
Slide Switch, DPDT, TH, 5A; Manufacturer: E-Switch; MfgPartNumber: 500SDP1S3M2QEA; DigikeyPartNumber: 500SDP1S3M2QEA-ND
footprint SLIDE_SWITCH_TH_VERT_DPDT (thruhole slide switch 5A vertical, for use with 500DP1S)
part A pins: 1, 2, 3, M1 hidden, M2 hidden
part B pins: 4, 5, 6

## SMA_conn
designator J?, comment SMA conn
Manufacturer: Lookup; MfgPartNumber: Lookup; DigikeyPartNumber: Lookup
footprint SMA_female_edge (Molex SMA conn edge mount female for 1.6mm pcb)
footprint SMA_TH_VERT (through-hole vertical SMA connector)
pins: 1, M

## SMA_F_EDGE
designator J?
CONN SMA RCPT STR 50OHM EDGE MNT; Manufacturer: Molex; MfgPartNumber: 0732511150; DigikeyPartNumber: WM5534-ND
footprint SMA_female_edge (Molex SMA conn edge mount female for 1.6mm pcb)
pins: 1, M

## SMA_F_TH_VERT
designator J?
Manufacturer: Molex; MfgPartNumber: 0733910060; DigikeyPartNumber: WM5543-ND
footprint SMA_TH_VERT (through-hole vertical SMA connector)
pins: 1, M

## SN74AVC4T245DR_level_shifter
designator U?, comment SN74AVC4T245
IC BUS TRANSCVR / level shifter 4BIT 16SOIC; Manufacturer: Texas Instruments; MfgPartNumber: SN74AVC4T245DR; DigikeyPartNumber: 296-17930-1-ND
footprint SOIC-16
pins: 1 VCCA, 2 1DIR, 3 2DIR, 4 1A1, 5 1A2, 6 2A1, 7 2A2, 8 GND, 9 GND, 10 2B2, 11 2B1, 12 1B2, 13 1B1, 14 2~{OE}, 15 1~{OE}, 16 VCCB
text: High A->B

## SN74AVC4T245DR_UQFN
designator U?, comment SN74AVC4T245
IC BUS TRANSCVR / level shifter 4BIT 16SOIC; Manufacturer: Texas Instruments; MfgPartNumber: SN74AVC4T245DR; DigikeyPartNumber: 296-17930-1-ND
footprint UQFN-16 (2.65x1.85x0.55mm)
pins: 1 1OEn, 2 VCCB, 3 VCCA, 4 1DIR, 5 2DIR, 6 1A1, 7 1A2, 8 2A1, 9 2A2, 10 GND, 11 GND, 12 2B2, 13 2B1, 14 1B2, 15 1B1, 16 2OEn
text: 1V2-3V6; High A->B

## SN74CBTLV3251_multiplexer
designator U?, comment SN74CBTLV3251
IC LV FET MUX/DEMUX 16-SOIC; Manufacturer: Texas Instruments; MfgPartNumber: SN74CBTLV3251DR; DigikeyPartNumber: 296-9128-1-ND
footprint SOIC-16
pins: 1 B4, 2 B3, 3 B2, 4 B1, 5 A, 6 NC, 7 OEn, 8 GND, 9 S2, 10 S1, 11 S0, 12 B8, 13 B7, 14 B6, 15 B5, 16 VCC
text: 2V3-3V6

## SN74HC21D_AND
designator U?, comment SOIC-14
IC GATE AND 2CH 4-INP 14SOIC; MfgPartNumber: SN74HC21D; Manufacturer: Texas Instruments; DigikeyPartNumber: 296-8265-5-ND
footprint SOIC-14
part A pins: 1 1A, 2 1B, 4 1C, 5 1D, 6 1Y
part B pins: 8 2Y, 9 2A, 10 2B, 12 2C, 13 2D
part C pins: 3 NC, 7 GND, 11 NC, 14 VCC

## SN74LVC1G240DCKR
designator U?  MfgPartNumber: SN74LVC1G240DCKR  (hidden comment: *)
IC BUFFER INVERT 5.5V SC70-5; Manufacturer: Texas Instruments; DigikeyPartNumber: 296-11610-1-ND
footprint SC70-5 (5 pin 2.3x3.2mm board area)
pins: 1 OEn, 2 A, 3 GND, 4 Y, 5 VCC
text: 1V65-5V5

## SPDT_COPAL_CL-SB-12B-01
designator SW?, comment SW_SPDT  CurrentLimit: 200mA  SW_type: SPDT
Slide switch, SPDT, SMT, 200mA; Manufacturer: COPAL; MfgPartNumber: CL-SB-12B-01; DigikeyPartNumber: 563-1318-1-ND
footprint COPAL_CL-SB-12B-01
pins: 1, 2, 3

## SPST_DUMMY
designator SW?, comment SW_SPST  (value not drawn)
Toggle Switch, SPST; SW_type: SPST
pins: 1, 2

## SQJ407EP-T1_GE3
designator Q?, comment PowerPak_SO-8  MfgPartNumber: SQJ407EP-T1_GE3
P-Channel 30V 60A (Tc) 68W (Tc) Surface Mount PowerPAK® SO-8; Manufacturer: Vishay Siliconix; Ron: 6.8mohm @6A, Vgs = -4.5V; DigikeyPartNumber: SQJ407EP-T1_GE3CT-ND
footprint POWERPAK_SO-8 (SO-8 duplicate for high power)
pins: 1 S, 2 S, 3 S, 4 G, 5 D

## SQJ412EP-T1_GE3
designator Q?, comment PowerPak SO-8  MfgPartNumber: SQJ412EP-T1_GE3
MOSFET N-CH 40V 32A PPAK SO-8; Manufacturer: Vishay Siliconix; Ron: 4.2mohm @ 8.7A, Vgs = 4.5; DigikeyPartNumber: SQJ412EP-T1_GE3CT-ND; Vds max: 40V
footprint POWERPAK_SO-8
pins: 1 S, 2 G, 3 G, 4 G, 5 D

## STANDOFF_15MM
designator ST?, comment height: 15MM  (hidden comment: mechanical only)  (mechanical)
HEX STANDOFF M3 NYLON 15MM; MfgPartNumber: CBMFTS270A; Manufacturer: Essentra Components; DigikeyPartNumber: RPC3006-ND

## STD2045CTR
designator D?
DIODE ARRAY SCHOTTKY 45V DPAK; Manufacturer: SMC Diode Solutions; DigikeyPartNumber: 1655-1696-1-ND; MfgPartNumber: STD2045CTR
footprint DPAK (3-pin SMD)
pins: 1, 2, 3

## SW_DIP_1
designator SW?  MfgPartNumber: CHS-01TA
Manufacturer: Nidec Copal; DigikeyPartNumber: 563-1003-1-ND
footprint CHS-01TA (1-bit dip switch surface mount)
pins: 1, 2

## SW_ROCKER_8_SPST
designator SW?
pins: 1, 2, 3, 4, 5, 6, 7, 8, 9, 10, 11, 12, 13, 14, 15, 16

## SX1509_IO_EXPANDER
designator U?, comment QFN-28  MfgPartNumber: SX1509QBIULTRT
I/O Expander 16 I²C 400kHz 28-QFN-UT (4x4); Manufacturer: Semtech; DigikeyPartNumber: SX1509QBIULTRTCT-ND
pins: 1 IO2, 2 IO3, 3 GND, 4 VCC1, 5 IO4, 6 IO5, 7 IO6, 8 IO7, 9 INTn, 10 ADDR1, 11 OSCIO, 12 VDDM, 13 IO8, 14 IO9, 15 IO10, 16 IO11, 17 GND, 18 VCC2, 19 IO12, 20 IO13, 21 IO14, 22 IO15, 23 RESETn, 24 SDA, 25 SCL, 26 ADDR0, 27 IO0, 28 IO1
text: 1V3-3V6

## SY100EP57V
designator U?
IC MUX DIFF 4:1 3.3V/5V 20-TSSOP; MfgPartNumber: SY100EP57VK4G; Manufacturer: Microchip Technology; DigikeyPartNumber: 576-1997-5-ND
footprint TSSOP-20 (20-pin SMT)
pins: 1 VCC, 2 D0, 3 ~{D0}, 4 D1, 5 ~{D1}, 6 D2, 7 ~{D2}, 8 D3, 9 ~{D3}, 10 VEE, 11 VEE, 12 VBB2, 13 VBB1, 14 VCC, 15 ~{Q}, 16 Q, 17 VCC, 18 SEL0, 19 SEL1, 20 VCC

## SY89858U
designator U?
IC CLK BUFFER 1:8 3GHZ 32MLF; Manufacturer: Microchip Technology; MfgPartNumber: SY89858UMG; DigikeyPartNumber: 576-2103-5-ND
footprint MLF-32 (quad no-lead 0.5mm pitch, power pad)
pins: 1 VCC, 2 GND, 3 IN, 4 VT, 5 VREF-AC, 6 ~{IN}, 7 GND, 8 VCC, 9 VCC, 10 ~{Q7}, 11 Q7, 12 ~{Q6}, 13 Q6, 14 ~{Q5}, 15 Q5, 16 VCC, 17 GND, 18 VCC, 19 ~{Q4}, 20 Q4, 21 ~{Q3}, 22 Q3, 23 VCC, 24 GND, 25 VCC, 26 ~{Q2}, 27 Q2, 28 ~{Q1}, 29 Q1, 30 ~{Q0}, 31 Q0, 32 VCC, PPAD GND

## TCA6408ARGTR_IO_EXPANDER
designator U?, comment QFN-16_PAD  MfgPartNumber: TCA6408ARGTR
I/O Expander 8 I²C, SMBus 400kHz 16-QFN (3x3); Manufacturer: Texas Instruments; DigikeyPartNumber: 296-24825-1-ND
footprint HXQFN-16_PAD (3x3x0.5mm QFN)
pins: 1 ~{RESE}T, 2 P0, 3 P1, 4 P2, 5 P3, 6 GND, 7 P4, 8 P5, 9 P6, 10 P7, 11 ~{INT}, 12 SCL, 13 SDA, 14 VCCP, 15 VCCI, 16 ADDR, PAD
text: 1V65-5V5; 0b010000X

## TCA9555
designator U?, comment QFN-24  MfgPartNumber: TCA9555RTWR
I/O Expander 16 I²C, SMBus 400kHz 24-WQFN (4x4); Manufacturer: Texas Instruments; DigikeyPartNumber: 296-24857-1-ND
footprint VQFN-24_PAD (4x4x0.9mm)
pins: 1 P00, 2 P01, 3 P02, 4 P03, 5 P04, 6 P05, 7 P06, 8 P07, 9 GND, 10 P10, 11 P11, 12 P12, 13 P13, 14 P14, 15 P15, 16 P16, 17 P17, 18 A0, 19 SCL, 20 SDA, 21 VCC, 22 INTn, 23 A1, 24 A2
text: 1V7-5V5; 0b0100xxx

## TE_84981-4
designator J?, comment SMD FFC conn
CONN FFC FPC TOP 4POS 1.00MM R/A; Manufacturer: TE Connectivity; MfgPartNumber: 84981-5; DigikeyPartNumber: A101369CT-ND
footprint 84981-4 FFC conn (CONN FFC FPC TOP 4POS 1.00MM R/A)
pins: 1, 2, 3, 4, M1, M2

## test_part
designator Z?, comment string_test: str_test  boolean_test: TRUE  integer_test: 101  float_test: 101.123  (hidden comment: .designator)
footprint test_component (test only)
pins: 1

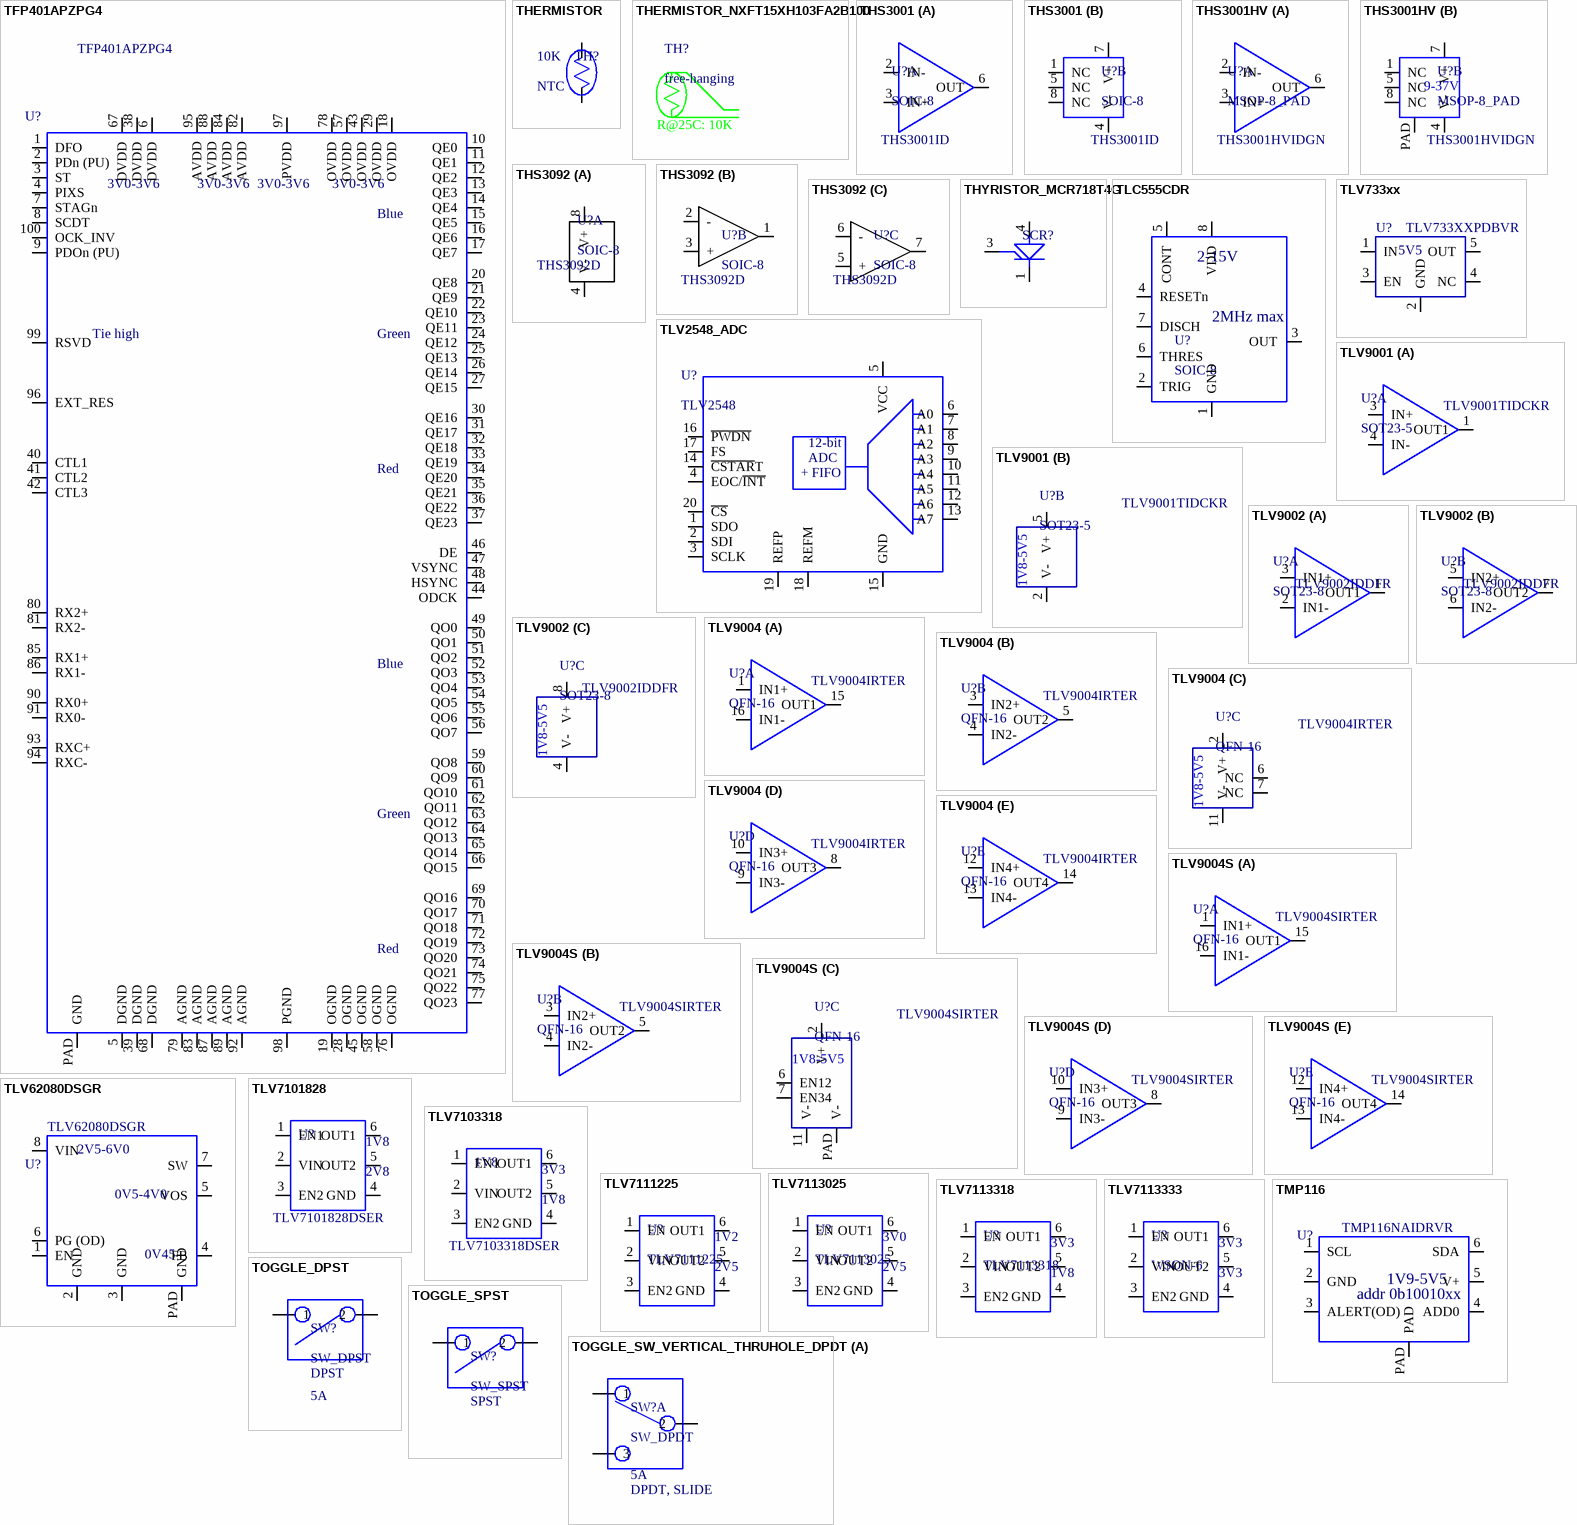
[diagram p17: symbols TFP401APZPG4 to TOGGLE_SW_VERTICAL_THRUHOLE_DPDT]

## TFP401APZPG4
designator U?, comment MfgPartNumber: TFP401APZPG4  (hidden comment: HTQFP-100)
HDMI to 24-bit RGB converter; Manufacturer: Texas Instruments; DigikeyPartNumber: 296-36158-5-ND
footprint HTQFP-100 (14x14mm for TFP401)
pins: 1 DFO, 2 PDn (PU), 3 ST, 4 PIXS, 5 DGND, 6 DVDD, 7 STAGn, 8 SCDT, 9 PDOn (PU), 10 QE0, 11 QE1, 12 QE2, 13 QE3, 14 QE4, 15 QE5, 16 QE6, 17 QE7, 18 OVDD, 19 OGND, 20 QE8, 21 QE9, 22 QE10, 23 QE11, 24 QE12, 25 QE13, 26 QE14, 27 QE15, 28 OGND, 29 OVDD, 30 QE16, 31 QE17, 32 QE18, 33 QE19, 34 QE20, 35 QE21, 36 QE22, 37 QE23, 38 DVDD, 39 DGND, 40 CTL1, 41 CTL2, 42 CTL3, 43 OVDD, 44 ODCK, 45 OGND, 46 DE, 47 VSYNC, 48 HSYNC, 49 QO0, 50 QO1, 51 QO2, 52 QO3, 53 QO4, 54 QO5, 55 QO6, 56 QO7, 57 OVDD, 58 OGND, 59 QO8, 60 QO9, 61 QO10, 62 QO11, 63 QO12, 64 QO13, 65 QO14, 66 QO15, 67 DVDD, 68 DGND, 69 QO16, 70 QO17, 71 QO18, 72 QO19, 73 QO20, 74 QO21, 75 QO22, 76 OGND, 77 QO23, 78 OVDD, 79 AGND, 80 RX2+, 81 RX2-, 82 AVDD, 83 AGND, 84 AVDD, 85 RX1+, 86 RX1-, 87 AGND, 88 AVDD, 89 AGND, 90 RX0+, 91 RX0-, 92 AGND, 93 RXC+, 94 RXC-, 95 AVDD, 96 EXT_RES, 97 PVDD, 98 PGND, 99 RSVD, 100 OCK_INV, PAD GND
text: 3V0-3V6; Blue; Tie high; Green; Red

## THERMISTOR
designator TH?  value 10K  PTCorNTC: NTC  (hidden comment: THERMISTOR)
Manufacturer: Lookup; B25/50: 3380; MfgPartNumber: Lookup; DigikeyPartNumber: Lookup
footprint R0603
footprint R0402
pins: 1, 2

## THERMISTOR_NXFT15XH103FA2B100
designator TH?, comment free-hanging  R@25C: 10K  (mechanical)
THERMISTOR NTC 10KOHM 3380K BEAD; MfgPartNumber: NXFT15XH103FA2B100; Manufacturer: Murata; B25/80: 3428K; tolerance: 1%; DigikeyPartNumber: 490-5630-ND; B25/50: 3380K

## THS3001
designator U?, comment SOIC-8  MfgPartNumber: THS3001ID
Current Feedback Amplifier 1 Circuit 8-SOIC; Manufacturer: TI; GBWP: 1.75GHz; Slew: 6500V/us; DigikeyPartNumber: 296-7507-5-ND
footprint SOIC-8
part A pins: 2 IN-, 3 IN+, 6 OUT
part B pins: 1 NC, 4 V-, 5 NC, 7 V+, 8 NC

## THS3001HV
designator U?, comment MSOP-8_PAD  MfgPartNumber: THS3001HVIDGN
Current Feedback Amplifier 1 Circuit 8-MSOP-PowerPad; Manufacturer: TI; GBWP: 1.75GHz; Slew: 6500V/us; DigikeyPartNumber: 296-19419-5-ND
footprint MSOP-8_PAD (3x3mm + leads, 8 pins SMD)
part A pins: 2 IN-, 3 IN+, 6 OUT
part B pins: 1 NC, 4 V-, 5 NC, 7 V+, 8 NC, PAD
part B text: 9-37V

## THS3092
designator U?, comment SOIC-8  MfgPartNumber: THS3092D
IC OPAMP CFA 160MHZ 8SOIC; Manufacturer: Texas Instruments; DigikeyPartNumber: THS3092D
footprint SOIC-8
part A pins: 4 V-, 8 V+
part B pins: 1, 2 -, 3 +
part C pins: 5 +, 6 -, 7

## THYRISTOR_MCR718T4G
designator SCR?, comment DO-214AC  (value not drawn)
SCR 600V 4A Sensitive Gate Surface Mount DPAK; Manufacturer: Littlefuse; MfgPartNumber: MCR718T4G; DigikeyPartNumber: MCR718T4GOSCT-ND
footprint TO-252-3 (3-pin SMD)
pins: 1, 3, 4

## TLC555CDR
designator U?, comment SOIC-8
IC OSC SGL TIMER 2.1MHZ 8-SOIC; Manufacturer: TI; MfgPartNumber: TLC555CDR; DigikeyPartNumber: 296-1336-1-ND
footprint SOIC-8
pins: 1 GND, 2 TRIG, 3 OUT, 4 RESETn, 5 CONT, 6 THRES, 7 DISCH, 8 VDD
text: 2-15V; 2MHz max

## TLV733xx
designator U?, comment TLV733XXPDBVR
LDO; Manufacturer: TI; Voltage (#V#): 1V0; MfgPartNumber: TLV733XXPDBVR; DigikeyPartNumber: lookup
footprint SOT23-5
pins: 1 IN, 2 GND, 3 EN, 4 NC, 5 OUT
text: 5V5

## TLV2548_ADC
designator U?, comment TLV2548
IC 12BIT 200KSPS ADC S/O 20-SOIC; MfgPartNumber: TLV2548QDWR; Manufacturer: Texas Instruments; DigikeyPartNumber: 296-43101-1-ND
footprint SOIC-20 (6-mm wide SMD)
pins: 1 SDO, 2 SDI, 3 SCLK, 4 EOC/~{INT}, 5 VCC, 6 A0, 7 A1, 8 A2, 9 A3, 10 A4, 11 A5, 12 A6, 13 A7, 14 ~{CSTAR}T, 15 GND, 16 ~{PWDN}, 17 FS, 18 REFM, 19 REFP, 20 ~{CS}
text: 12-bit; ADC; + FIFO

## TLV9001
designator U?, comment SOT23-5  MfgPartNumber: TLV9001TIDCKR
op-amp single; Manufacturer: Texas Instruments; DigikeyPartNumber: 296-51824-1-ND
footprint SOT23-5
part A pins: 1 OUT1, 3 IN+, 4 IN-
part B pins: 2 V-, 5 V+
part B text: 1V8-5V5

## TLV9002
designator U?, comment SOT23-8  MfgPartNumber: TLV9002IDDFR
op-amp dual; Manufacturer: Texas Instruments; DigikeyPartNumber: 296-TLV9002IDDFRCT-ND
footprint SOT23-8 (8-pin SMT 3x3mm)
part A pins: 1 OUT1, 2 IN1-, 3 IN1+
part B pins: 5 IN2+, 6 IN2-, 7 OUT2
part C pins: 4 V-, 8 V+
part C text: 1V8-5V5

## TLV9004
designator U?, comment QFN-16  MfgPartNumber: TLV9004IRTER
op-amp quad; Manufacturer: Texas Instruments; DigikeyPartNumber: 296-51828-1-ND
footprint HXQFN-16_PAD (3x3x0.5mm QFN)
part A pins: 1 IN1+, 15 OUT1, 16 IN1-
part B pins: 3 IN2+, 4 IN2-, 5 OUT2
part C pins: 2 V+, 6 NC, 7 NC, 11 V-
part D pins: 8 OUT3, 9 IN3-, 10 IN3+
part E pins: 12 IN4+, 13 IN4-, 14 OUT4
part C text: 1V8-5V5

## TLV9004S
designator U?, comment QFN-16  MfgPartNumber: TLV9004SIRTER
op-amp quad with shutdown; Manufacturer: Texas Instruments; DigikeyPartNumber: 296-51829-1-ND
footprint HXQFN-16_PAD (3x3x0.5mm QFN)
part A pins: 1 IN1+, 15 OUT1, 16 IN1-
part B pins: 3 IN2+, 4 IN2-, 5 OUT2
part C pins: 2 V+, 6 EN12, 7 EN34, 11 V-, PAD V-
part D pins: 8 OUT3, 9 IN3-, 10 IN3+
part E pins: 12 IN4+, 13 IN4-, 14 OUT4
part C text: 1V8-5V5

## TLV62080DSGR
designator U?, comment MfgPartNumber: TLV62080DSGR  (hidden comment: WSON-8)
IC REG BUCK ADJ 1.2A 8WSON; Manufacturer: Texas Instruments; DigikeyPartNumber: 296-39270-1-ND
footprint WSON-8_PAD (2x2x0.8mm 8pins SMD + center pad)
pins: 1 EN, 2 GND, 3 GND, 4 FB, 5 VOS, 6 PG (OD), 7 SW, 8 VIN, PAD GND
text: 2V5-6V0; 0V5-4V0; 0V45

## TLV7101828
designator U?, comment MfgPartNumber: TLV7101828DSER  (hidden comment: WSON-6)
IC REG LIN 1.8V/2.8V 200MA 6WSON; Manufacturer: Texas Instruments; DigikeyPartNumber: 296-27778-1-ND
footprint TLV711x
pins: 1 EN1, 2 VIN, 3 EN2, 4 GND, 5 OUT2, 6 OUT1
text: 1V8; 2V8

## TLV7103318
designator 1V8, comment MfgPartNumber: TLV7103318DSER  (hidden comment: WSON-6)
IC REG LIN 3.3V/1.8V 200MA 6WSON; Manufacturer: Texas Instruments; DigikeyPartNumber: 296-46453-1-ND
footprint TLV711x
pins: 1 EN1, 2 VIN, 3 EN2, 4 GND, 5 OUT2, 6 OUT1
text: 3V3

## TLV7111225
designator U?
TLV7113025, dual linear reg, 1V2+ 2V5; Manufacturer: TI; MfgPartNumber: TLV7111225DSER; DigikeyPartNumber: 296-35049-1-ND
footprint TLV711x
pins: 1 EN, 2 VIN, 3 EN2, 4 GND, 5 OUT2, 6 OUT1
text: 1V2; 2V5

## TLV7113025
designator U?
TLV7113025, dual linear reg, 3V0 + 2V5; Manufacturer: TI; MfgPartNumber: TLV7113025DSER; DigikeyPartNumber: 296-35051-1-ND
footprint TLV711x
pins: 1 EN, 2 VIN, 3 EN2, 4 GND, 5 OUT2, 6 OUT1
text: 3V0; 2V5

## TLV7113318
designator U?
TLV7111830, dual linear reg, 3V3 + 1V8; Manufacturer: TI; MfgPartNumber: TLV7113318DSER; DigikeyPartNumber: 296-29736-1-ND
footprint TLV711x
pins: 1 EN, 2 VIN, 3 EN2, 4 GND, 5 OUT2, 6 OUT1
text: 3V3; 1V8

## TLV7113333
designator U?, comment WSON-6
TLV7113333, dual linear reg, 3V3 + 3V3; Manufacturer: TI; MfgPartNumber: Number TLV7113333DDSER; DigikeyPartNumber: TLV7113333DDSER
footprint TLV711x
pins: 1 EN, 2 VIN, 3 EN2, 4 GND, 5 OUT2, 6 OUT1
text: 3V3

## TMP116
designator U?  MfgPartNumber: TMP116NAIDRVR  (hidden comment: TMP116)
Temperature Sensor Digital, Local -55°C ~ 125°C 16 b 6-WSON (2x2); Manufacturer: Texas Instruments; DigikeyPartNumber: 296-48306-1-ND
footprint WSON-6_PAD (2x2mm 6pin + power pad)
pins: 1 SCL, 2 GND, 3 ALERT(OD), 4 ADD0, 5 V+, 6 SDA, PAD
text: 1V9-5V5; addr 0b10010xx

## TOGGLE_DPST
designator SW?, comment SW_DPST  CurrentLimit: 5A  SW_type: DPST
Toggle Switch, DPST; Manufacturer: E-Switch; MfgPartNumber: 100DP1T1B1M2QEH; DigikeyPartNumber: EG2400-ND
footprint TOGGLE_100DP1T (For thru hole toggle switch, DP1T)
pins: 1, 2

## TOGGLE_SPST
designator SW?, comment SW_SPST  SW_type: SPST
Toggle Switch, SPST
pins: 1, 2

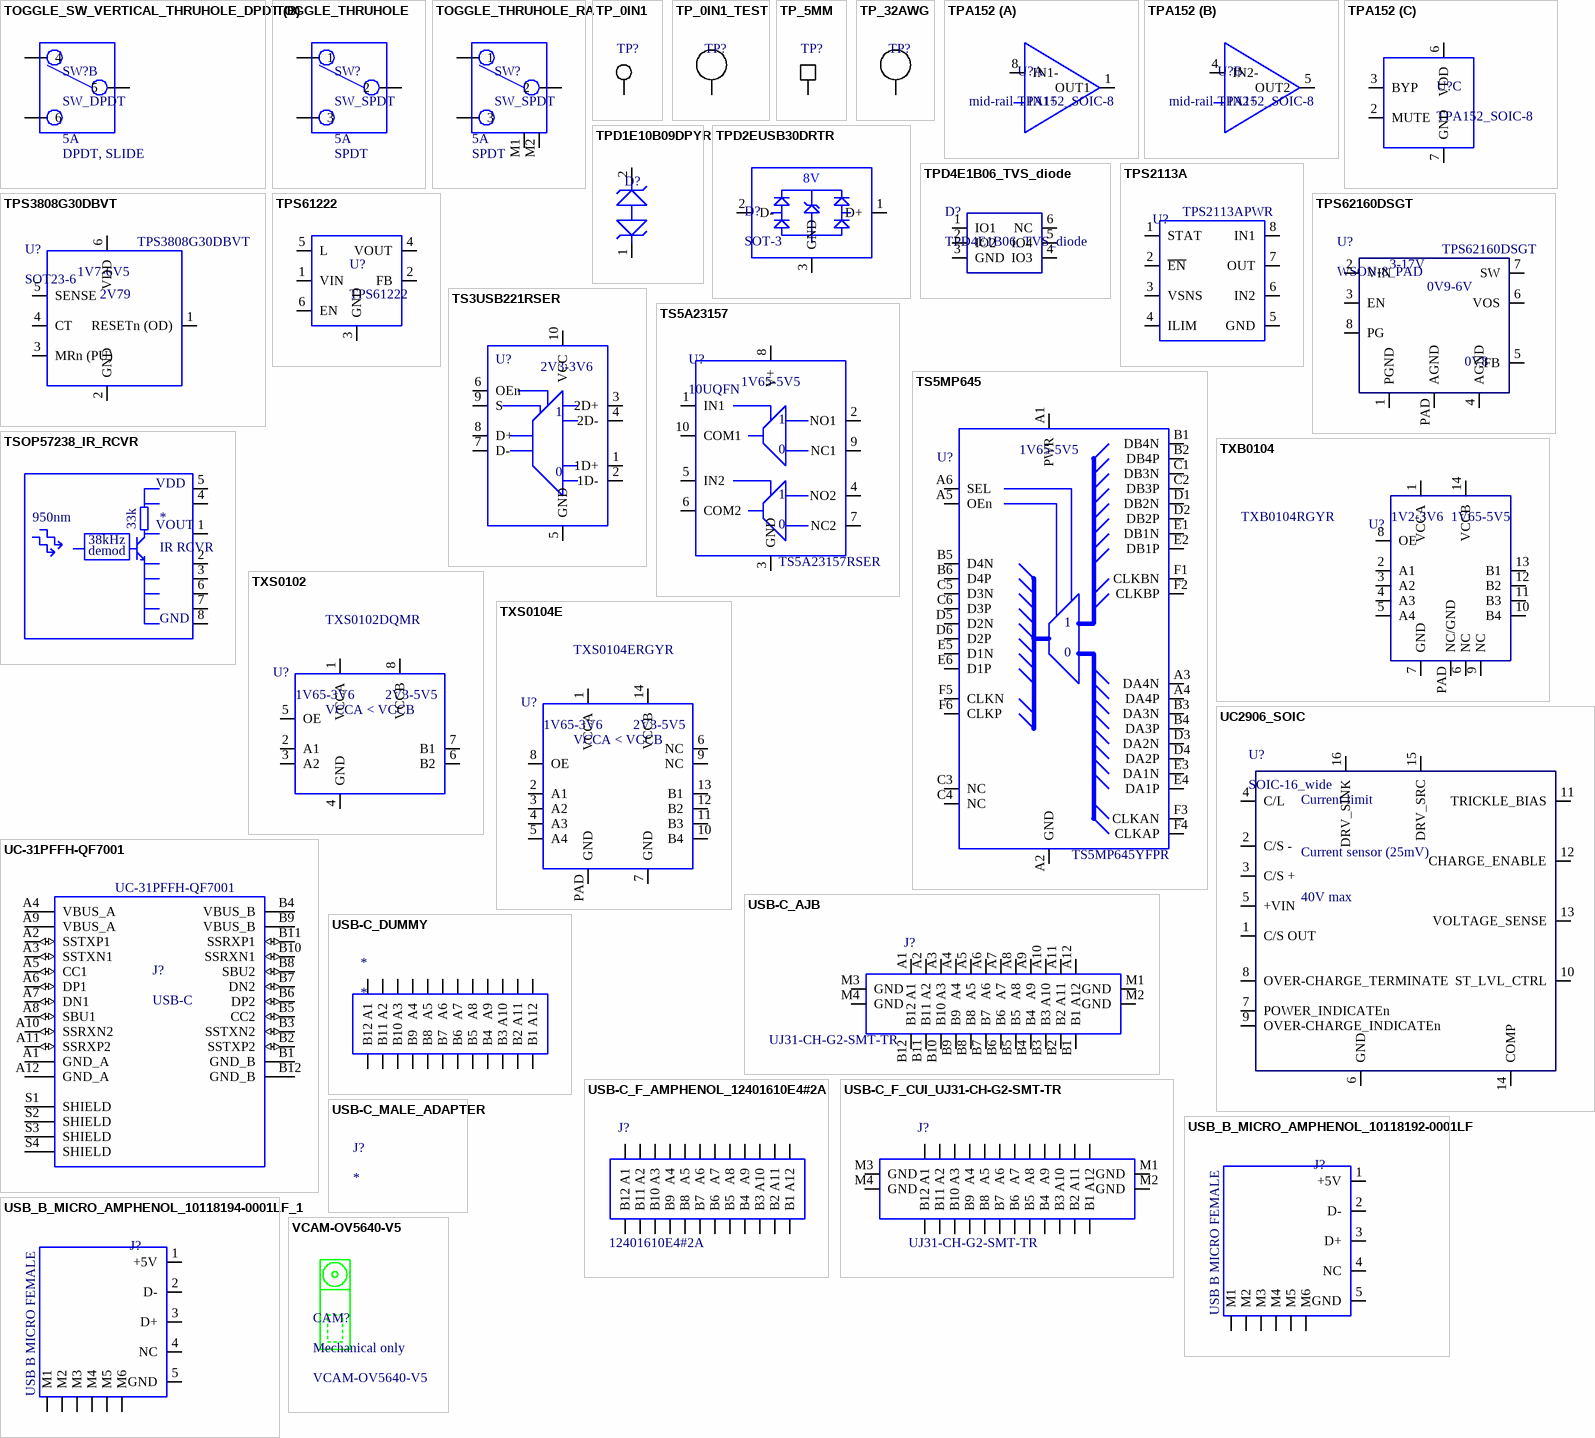
[diagram p18: symbols TOGGLE_SW_VERTICAL_THRUHOLE_DPDT to VCAM-OV5640-V5]

## TOGGLE_SW_VERTICAL_THRUHOLE_DPDT
designator SW?, comment SW_DPDT  CurrentLimit: 5A  SW_type: DPDT, SLIDE
Toggle Switch, DPDT, TH, 5A; Manufacturer: E-Switch; MfgPartNumber: 100DP1T1B1M2QEH; DigikeyPartNumber: EG2400-ND
footprint TOGGLE_100DP1T (For thru hole toggle switch, DP1T)
part A pins: 1, 2, 3, M1 hidden, M2 hidden
part B pins: 4, 5, 6

## TOGGLE_THRUHOLE
designator SW?, comment SW_SPDT  CurrentLimit: 5A  SW_type: SPDT
Toggle Switch, SPDT, TH, 5A; Manufacturer: E-Switch; MfgPartNumber: 100SP1T1B4M2QE; DigikeyPartNumber: EG2355-ND
footprint TOGGLE_100SP1T (For thru hole toggle switch)
pins: 1, 2, 3

## TOGGLE_THRUHOLE_RA
designator SW?, comment SW_SPDT  CurrentLimit: 5A  SW_type: SPDT
Toggle Switch, SPDT, TH, 5A, RA; Manufacturer: E-Switch; MfgPartNumber: 100SP1T2B4M6QE; DigikeyPartNumber: EG2362-ND
footprint TOGGLE_100SP1T_RA (For thru hole toggle switch right angle)
pins: 1, 2, 3, M1, M2

## TP_0IN1
designator TP?, comment Not A Part  (value not drawn)  (no BOM)
hole for 0.1in header. No BOM item.
footprint TP_0IN1 (tenth-inch header as a testpoint)
pins: 1 MTG "M3 MTG HOLE"

## TP_0IN1_TEST
designator TP?, comment Not A Part  (value not drawn)  (no BOM)
hole for 0.1in header. No BOM item.
footprint TP_0IN1 (tenth-inch header as a testpoint)
pins: 1 MTG "M3 MTG HOLE"

## TP_5MM
designator TP?, comment Not A Part  (value not drawn)  (no BOM)
5x5mm pad
footprint TP_5x5mm
pins: 1 MTG "M3 MTG HOLE"

## TP_32AWG
designator TP?, comment Not A Part  (value not drawn)  (no BOM)
0.305mm (12mil) hole for 32AWG wire. No BOM item.
footprint TP_32AWG (hole+pad for 32AWG wire)
pins: 1 MTG "M3 MTG HOLE"

## TPA152
designator U?, comment TPA152_SOIC-8
TPA152 dual power amp; Manufacturer: TI; MfgPartNumber: TPA152DR; DigikeyPartNumber: 296-1944-1-ND
footprint SOIC-8
part A pins: 1 OUT1, 8 IN1-
part B pins: 4 IN2-, 5 OUT2
part C pins: 2 MUTE, 3 BYP, 6 VDD, 7 GND
part A text: mid-rail; IN1+
part B text: mid-rail; IN2+

## TPD1E10B09DPYR
designator D?, comment Zener Diode  (value not drawn)
TVS DIODE 9V 20V 2X1SON; Manufacturer: Texas Instruments; MfgPartNumber: TPD1E10B09DPYR; DigikeyPartNumber: 296-30405-1-ND
footprint D0402_NONPOL (1.0x0.6x0.5mm for)
pins: 1, 2

## TPD2EUSB30DRTR
designator D?, comment SOT-3
TVS DIODE 5.5V 8V SOT3; MfgPartNumber: TPD2EUSB30DRTR; Manufacturer: Texas Instruments; DigikeyPartNumber: 296-25509-1-ND
footprint SOT3 (0.8x1x0.5mm 3-pin SMT)
pins: 1 D+, 2 D-, 3 GND
text: 8V

## TPD4E1B06_TVS_diode
designator D?
TVS DIODE 5.5V 14.5V SC70-6; MfgPartNumber: TPD4E1B06DCKR; Manufacturer: Texas Instruments; DigikeyPartNumber: 296-39346-1-ND
footprint SC70-6 (6 pin 2.3x3.2mm board area)
pins: 1 IO1, 2 IO2, 3 GND, 4 IO3, 5 IO4, 6 NC

## TPS2113A
designator U?  MfgPartNumber: TPS2113APWR  (hidden comment: TPS2113A)
IC OR CTRLR SRC SELECT 8TSSOP; Manufacturer: TI; DigikeyPartNumber: 296-16938-1-ND
footprint TSSOP-8 (8-pin SMT)
pins: 1 STAT, 2 ~{EN}, 3 VSNS, 4 ILIM, 5 GND, 6 IN2, 7 OUT, 8 IN1

## TPS3808G30DBVT
designator U?, comment SOT23-6  MfgPartNumber: TPS3808G30DBVT
IC SUPERVISOR 1 CHANNEL SOT23-6; Manufacturer: Texas Instruments; DigikeyPartNumber: 296-26944-1-ND
footprint SOT23-6
pins: 1 RESETn (OD), 2 GND, 3 MRn (PU), 4 CT, 5 SENSE, 6 VDD
text: 1V7-6V5; 2V79

## TPS61222
designator U?
5V0 fixed output boost; Manufacturer: TI; MfgPartNumber: TPS61222DCKR; DigikeyPartNumber: 296-39435-1-ND
footprint SC70-6 (6 pin 2.3x3.2mm board area)
pins: 1 VIN, 2 FB, 3 GND, 4 VOUT, 5 L, 6 EN

## TPS62160DSGT
designator U?  MfgPartNumber: TPS62160DSGT
Buck Switching Regulator IC Positive Adjustable 0.9V 1 Output 1A 8-WFDFN Exposed Pad; Manufacturer: Texas Instruments; DigikeyPartNumber: 296-30226-1-ND
footprint WSON-8_PAD (2x2x0.8mm 8pins SMD + center pad)
pins: 1 PGND, 2 VIN, 3 EN, 4 AGND, 5 FB, 6 VOS, 7 SW, 8 PG, PAD AGND
text: 3-17V; 0V9-6V; 0V8

## TS3USB221RSER
designator U?
IC USB SWITCH DUAL 1X2 10UQFN; Manufacturer: Texas Instruments; MfgPartNumber: TS3USB221RSER; DigikeyPartNumber: 296-21918-1-ND
footprint UFQFN-10 (1.55x2x0.6mm)
pins: 1 1D+, 2 1D-, 3 2D+, 4 2D-, 5 GND, 6 OEn, 7 D-, 8 D+, 9 S, 10 VCC
text: 2V3-3V6; 0

## TS5A23157
designator U?, comment 10UQFN  MfgPartNumber: TS5A23157RSER
IC SWITCH DUAL SPDT 10UQFN; Manufacturer: Texas Instruments; DigikeyPartNumber: 296-21919-1-ND
footprint UFQFN-10 (1.55x2x0.6mm)
pins: 1 IN1, 2 NO1, 3 GND, 4 NO2, 5 IN2, 6 COM2, 7 NC2, 8 V+, 9 NC1, 10 COM1
text: 1V65-5V5; 0

## TS5MP645
designator U?  MfgPartNumber: TS5MP645YFPR
10 Circuit IC Switch 2:1 6.5Ohm 36-DSBGA; Manufacturer: Texas Instruments; DigikeyPartNumber: 296-48352-1-ND
footprint DSBGA-36 (24.5x2.45mm BGA 6x6 array)
pins: A1 PWR, A2 GND, A3 DA4N, A4 DA4P, A5 OEn, A6 SEL, B1 DB4N, B2 DB4P, B3 DA3N, B4 DA3P, B5 D4N, B6 D4P, C1 DB3N, C2 DB3P, C3 NC, C4 NC, C5 D3N, C6 D3P, D1 DB2N, D2 DB2P, D3 DA2N, D4 DA2P, D5 D2N, D6 D2P, E1 DB1N, E2 DB1P, E3 DA1N, E4 DA1P, E5 D1N, E6 D1P, F1 CLKBN, F2 CLKBP, F3 CLKAN, F4 CLKAP, F5 CLKN, F6 CLKP
text: 1V65-5V5; 1; 0

## TSOP57238_IR_RCVR
designator *, comment IR RCVR
IR RCVR 950nm 38kHz; Manufacturer: Vishay; MfgPartNumber: *; DigikeyPartNumber: *
footprint TSOP572 (For TSOP572 IR RCVR)
pins: 1 OUT, 2 GND, 3, 4, 5, 6, 7, 8
text: VDD; 950nm; 33k; VOUT; 38kHz; demod

## TXB0104
designator U?  MfgPartNumber: TXB0104RGYR  (hidden comment: *)
Voltage Level Translator Bidirectional 1 Circuit 4 Channel 100Mbps 14-VQFN (3.5x3.5); Manufacturer: Texas Instruments; DigikeyPartNumber: 296-21930-1-ND
footprint VQFN-14_PAD (3.5x3.5mm QFN + PAD for TXB0104)
pins: 1 VCCA, 2 A1, 3 A2, 4 A3, 5 A4, 6 NC, 7 GND, 8 OE, 9 NC, 10 B4, 11 B3, 12 B2, 13 B1, 14 VCCB, PAD NC/GND
text: 1V2-3V6; 1V65-5V5

## TXS0102
designator U?  MfgPartNumber: TXS0102DQMR  (hidden comment: *)
Voltage Level Translator Bidirectional 1 Circuit 2 Channel 24Mbps 8-X2SON (1.8x1.2); Manufacturer: Texas Instruments; DigikeyPartNumber: 296-28435-1-ND
footprint X2SON-8 (1.8x1.2x0.4mm)
pins: 1 VCCA, 2 A1, 3 A2, 4 GND, 5 OE, 6 B2, 7 B1, 8 VCCB
text: 1V65-3V6; 2V3-5V5; VCCA < VCCB

## TXS0104E
designator U?  MfgPartNumber: TXS0104ERGYR  (hidden comment: *)
Voltage Level Translator Bidirectional 1 Circuit 4 Channel 24Mbps 14-VQFN (3.5x3.5); Manufacturer: Texas Instruments; DigikeyPartNumber: 296-20698-1-ND
footprint VQFN-14_PAD (3.5x3.5mm QFN + PAD for TXB0104)
pins: 1 VCCA, 2 A1, 3 A2, 4 A3, 5 A4, 6 NC, 7 GND, 8 OE, 9 NC, 10 B4, 11 B3, 12 B2, 13 B1, 14 VCCB, PAD GND
text: 1V65-3V6; 2V3-5V5; VCCA < VCCB

## UC2906_SOIC
designator U?
Charger IC Lead Acid 16-SOIC; MfgPartNumber: UC2906DWTR; Manufacturer: Texas Instruments; DigikeyPartNumber: 296-29431-1-ND
footprint SOIC-16_wide (16 pins SMT 7.6x10.5mm)
pins: 1 C/S OUT, 2 C/S -, 3 C/S +, 4 C/L, 5 +VIN, 6 GND, 7 POWER_INDICATEn, 8 OVER-CHARGE_TERMINATE, 9 OVER-CHARGE_INDICATEn, 10 ST_LVL_CTRL, 11 TRICKLE_BIAS, 12 CHARGE_ENABLE, 13 VOLTAGE_SENSE, 14 COMP, 15 DRV_SRC, 16 DRV_SINK
text: Current limit; Current sensor (25mV); 40V max